# Altium schematic symbol library nova34.SCHLIB: 65 symbols
Pins are listed as number, name and electrical type; pins without a type are passive.

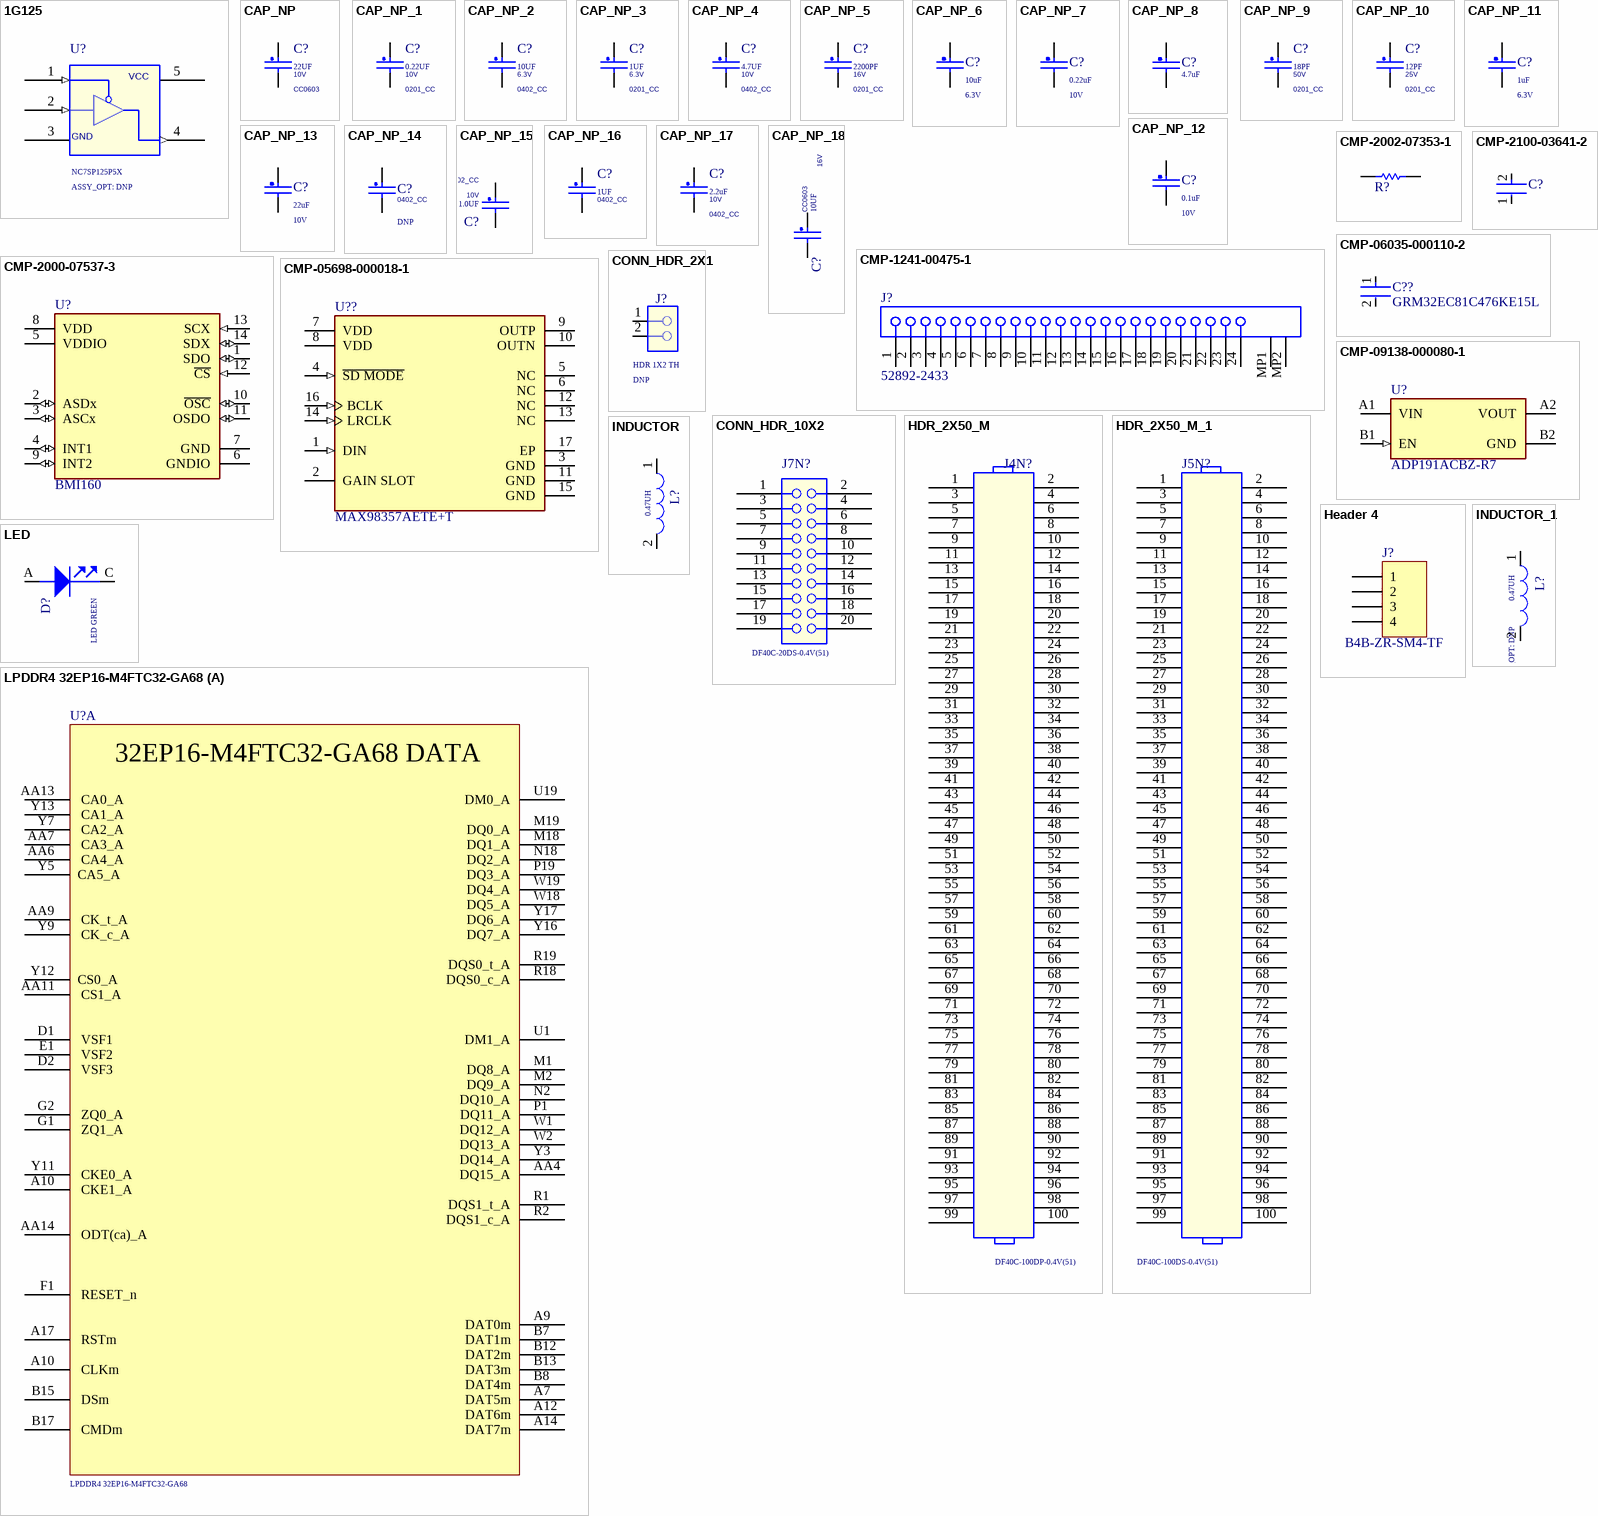
[diagram p0: symbols 1G125 to LPDDR4 32EP16-M4FTC32-GA68]

## 1G125
designator U?, comment NC7SP125P5X  ASSY_OPT: DNP
IC BUF TS 0.9-3.6V; PCB Footprint: SC70-5_A; MFG_NAME01: FAIRCHILD; CAD_APPROVED: Yes; AGILE_PN: 312-30153; CLASS: IC; MFG_PN01: NC7SP125P5X; ROHS: Yes; HEIGHT: 1.1MM
footprint SC70-5_A
footprint FP-MAA05A-IPC_B
pins: 1 ~{OE} (in), 2 A (in), 3 GND (power), 4 Y (out), 5 VCC (power)

## CAP_NP
designator C?, comment 22UF  VOLTAGE: 10V  PCB Footprint: CC0603
CAP CER 22uF 10V 20% X5R 0603; CLASS: DISCRETE; WVDC: 6.3V; AGILE_PN: 150-79530; MFG_NAME01: TDK; MFG_PN01: C1608X5R1A226M080AC; CAD_APPROVED: Yes; FPLIST: CC0603_OV,CC0603,0603_CC; SIGNAL_MODEL: DEFAULT_CAPACITOR_2.2e+07pF_2_1; Package Size: 0603; Tolerance: 20%; ROHS: Yes; HEIGHT: 1MM
footprint CC0603
footprint 0603_CC (CAP_NP_0603_CC_DISCRETE_1MM_150\By AAR)
pins: 1, 2

## CAP_NP_1
designator C?, comment 0.22UF  VOLTAGE: 10V  PCB Footprint: 0201_CC
CAP CER 0.22UF 10V 20% X5R 0201; CLASS: DISCRETE; AGILE_PN: 150-78815; MFG_NAME01: Taiyo Yuden; MFG_PN01: LMK063BJ224MP-F; CAD_APPROVED: Yes; FPLIST: CC0201,CC0201_HD,0201_CC; Tolerance: 20%; ROHS: Yes; HEIGHT: 0.33MM
footprint 0201_CC
footprint 0201_CC - C (0201_CC\By AAR)
pins: 1, 2

## CAP_NP_2
designator C?, comment 10UF  VOLTAGE: 6.3V  PCB Footprint: 0402_CC
CAP CER 10UF 6.3V 20% X5R 0402; CLASS: DISCRETE; AGILE_PN: 150-79163; MFG_NAME01: SAMSUNG ELECTRO MECHANICS; MFG_PN01: CL05A106MQ5NUNC; CAD_APPROVED: Yes; FPLIST: CC0402_25,CC0402_HD,0402_CC; Tolerance: 20%; ROHS: Yes; HEIGHT: 0.65 MM
footprint 0402_CC
footprint 0402_CC - C (0402_CC\By AAR)
pins: 1, 2

## CAP_NP_3
designator C?, comment 1UF  PCB Footprint: 0201_CC  VOLTAGE: 6.3V
CAP CER 1uF 6.3V 20% X5R 0201; CLASS: DISCRETE; AGILE_PN: 150-79407; MFG_NAME01: AVX; MFG_PN01: 02016D105MAT2A; CAD_APPROVED: Yes; FPLIST: CC0201,CC0201_HD,0201_CC,0201_CC_012SM_NSP; Package Type: 7¡± reel; Package Size: 0201; Tolerance: 20%; ROHS: Yes; HEIGHT: 0.35MM
footprint 0201_CC
footprint 0201_CC - C (0201_CC\By AAR)
pins: 1, 2

## CAP_NP_4
designator C?, comment 4.7UF  VOLTAGE: 10V  PCB Footprint: 0402_CC
CAP CER 4.7uF 10V 10% X5R 0402; CLASS: DISCRETE; AGILE_PN: 150-80044; MFG_NAME01: Samsung Electro Mechanics; MFG_PN01: CL05A475KP5NRNC; CAD_APPROVED: Yes; FPLIST: CC0402_25,CC0402_HD,0402_CC; Tolerance: 10%; ROHS: Yes; HEIGHT: 0.65MM
footprint 0402_CC - C (0402_CC\By AAR)
pins: 1, 2

## CAP_NP_5
designator C?, comment 2200PF  VOLTAGE: 16V  PCB Footprint: 0201_CC
CAP CER 2200PF 16V 10% X7R 0201; CLASS: DISCRETE; AGILE_PN: 150-78660; Tolerance: 20%; MFG_NAME01: MURATA; MFG_PN01: GRM033R71C222KA88D; CAD_APPROVED: Yes; FPLIST: CC0201,CC0201_HD,0201_CC; ROHS: Yes; HEIGHT: 0.33 MM
footprint 0201_CC
footprint 0201_CC - C (0201_CC\By AAR)
pins: 1, 2

## CAP_NP_6
designator C?, comment 10uF  Voltage: 6.3V
CLASS: DISCRETE
footprint 0402_CC - C (0402_CC\By AAR)
pins: 1, 2

## CAP_NP_7
designator C?, comment 0.22uF  Voltage: 10V
CLASS: DISCRETE
footprint 0201_CC - C (0201_CC\By AAR)
pins: 1, 2

## CAP_NP_8
designator C?, comment 4.7uF
CLASS: DISCRETE
footprint 0402_CC - C (0402_CC\By AAR)
pins: 1, 2

## CAP_NP_9
designator C?, comment 18PF  VOLTAGE: 50V  PCB Footprint: 0201_CC
CAP CER 18pF 50V 5% C0G 0201; CLASS: DISCRETE; FPLIST: CC0201,CC0201_HD,0201_CC; CAD_APPROVED: Yes; MFG_PN01: GRM0335C1H180JA01D; MFG_NAME01: MURATA; AGILE_PN: 150-79476; Package Type: &#966;180mm Paper taping; Package Size: 0201; HEIGHT: 0.33MM; ROHS: Yes; Tolerance: 5%
footprint 0201_CC
footprint 0201_CC - C (0201_CC\By AAR)
pins: 1, 2

## CAP_NP_10
designator C?, comment 12PF  VOLTAGE: 25V  PCB Footprint: 0201_CC
CAP CER 12PF 25V 5% C0G AEC-Q200 0201; CLASS: DISCRETE; FPLIST: CC0201,CC0201_HD,0201_CC; CAD_APPROVED: Yes; MFG_PN01: CGA1A2C0G1E120J030BA; MFG_NAME01: TDK; AGILE_PN: 150-79813; HEIGHT: 0.33MM; ROHS: Yes; Tolerance: 5%
footprint 0201_CC
footprint 0201_CC - C (0201_CC\By AAR)
pins: 1, 2

## CAP_NP_11
designator C?, comment 1uF  Voltage: 6.3V
CLASS: DISCRETE
footprint 0201_CC - C (0201_CC\By AAR)
pins: 1, 2

## CAP_NP_12
designator C?, comment 0.1uF  Voltage: 10V
CLASS: DISCRETE
footprint 0201_CC - C (0201_CC\By AAR)
pins: 1, 2

## CAP_NP_13
designator C?, comment 22uF  Voltage: 10V
CLASS: DISCRETE
footprint 0603_CC (CAP_NP_0603_CC_DISCRETE_1MM_150\By AAR)
pins: 1, 2

## CAP_NP_14
designator C?, comment ASSY_OPT: DNP  PCB Footprint: 0402_CC  (hidden comment: 10PF)
CAP CER 10PF 25V 5% C0G 0402; CLASS: DISCRETE; MFG_PN01: C0402C0G250-100JNP; MFG_NAME01: VENKEL COMPANY; CAD_APPROVED: Yes; FPLIST: CC0402_25,CC0402_HD,0402_CC; AGILE_PN: 150-30134; VOLTAGE: 25V; ROHS: Yes; Tolerance: 5%; Package Type: 0402; HEIGHT: 0.635 MM; Package Size: Paper Tape (7" Reel)
footprint 0402_CC
footprint 0402_CC - C (0402_CC\By AAR)
pins: 1, 2

## CAP_NP_15
designator C?, comment 1.0UF  PCB Footprint: 0402_CC  VOLTAGE: 10V
CAP CER 1.0UF 10V 10% X5R 0402; CLASS: DISCRETE; FPLIST: CC0402_25,CC0402_HD,0402_CC; CAD_APPROVED: Yes; MFG_PN01: CC0402KRX5R6BB105; MFG_NAME01: YAGEO AMERICA; AGILE_PN: 150-75772; HEIGHT: 0.6MM; ROHS: Yes; Package Size: 0402
footprint 0402_CC
footprint 0402_CC - C (0402_CC\By AAR)
pins: 1, 2

## CAP_NP_16
designator C?, comment 1UF  PCB Footprint: 0402_CC
CAP CER 1uF 10V 10% X7S 0402; CLASS: DISCRETE; Temp_Range: -55C - 125C; AGILE_PN: 150-80357; MFG_NAME01: MURATA; MFG_PN01: GRM155C71A105KE11D; CAD_APPROVED: Yes; FPLIST: CC0402_25,CC0402_HD,0402_CC; VOLTAGE: 10; Tolerance: 10%; ROHS: Yes; HEIGHT: 0.6MM; Package Size: 0402; Temp Range: -55C - 125C
footprint 0402_CC
footprint 0402_CC - C (0402_CC\By AAR)
pins: 1, 2

## CAP_NP_17
designator C?, comment 2.2uF  VOLTAGE: 10V  PCB Footprint: 0402_CC
CAP CER 2.2uF 10V 10% X5R 0402; CLASS: DISCRETE; AGILE_PN: 150-78974; MFG_NAME01: TDK; MFG_PN01: C1005X5R1A225K; CAD_APPROVED: Yes; FPLIST: CC0402_25,CC0402_HD,0402_CC; Tolerance: 10%; ROHS: Yes; HEIGHT: 0.55 MM; Package Size: 0402
footprint 0402_CC
footprint 0402_CC - C (0402_CC\By AAR)
pins: 1, 2

## CAP_NP_18
designator C?, comment 10UF  VOLTAGE: 16V  PCB Footprint: CC0603
CAP CER 10.0uF 16V 10% X5R 0603; CLASS: DISCRETE; FPLIST: CC0603_OV,CC0603,0603_CC,cc0603_0805_nsp; CAD_APPROVED: Yes; Temp_Range: -55¡ãC to +85¡ãC; MFG_PN01: GRM188R61C106KAALD; MFG_NAME01: MURATA; AGILE_PN: 150-80060; HEIGHT: 0.9MM; ROHS: Yes; Tolerance: 10%; Package Size: 0603; Package Type: SMT; Temp Range: -55¡ãC to +85¡ãC
footprint CC0603
footprint 0603_CC (CAP_NP_0603_CC_DISCRETE_1MM_150\By AAR)
pins: 1, 2

## CMP-1241-00475-1
designator J?, comment 52892-2433
0.5 mm Pitch Easy-On(TM) Type FPC Connector, 2.0 mm Mated Height, Right Angle, ZIF, SMT, Bottom Contact, 24 Circuits, -40 to 85 degC, ELV and RoHS Compliant, Tape and Reel; Manufacturer: Molex; Entry Angle: 90degrees Angle; Current (Max per Contact): 0.5A; Material - Plating Termination: Silver, Tin-Bismuth; Stackable: No; Durability (mating cycles max): 20; Pitch - Termination Interface: 0.50mm; Material - Metal: Phosphor Bronze; PCB Retention: Yes; Voltage (Max): 50V; Mated Height: 2.00mm; Circuits (Loaded): 24; Orientation: Right Angle; PackageVersion: Rev. A, 05/2013; Mounting Technology: Surface Mount; ComponentLink2URL: http://www.molex.com/webdocs/datasheets/pdf/en-us/0528922433_FFC_FPC_CONNECTORS.pdf; RoHS: TRUE; ComponentLink1Description: Manufacturer URL; ComponentLink2Description: Datasheet; Pitch - Mating Interface: 0.50mm; Polarized to PCB: No; Number of Rows: 1; PartNumber: 52892-2433; ComponentLink3Description: Package Specification; Material - Plating Mating: Silver, Tin-Bismuth; ComponentLink3URL: http://www.molex.com/pdm_docs/sd/528922433_sd.pdf; PackageReference: 52892-2433; PackageDescription: 24-Lead FPC Connector, Pitch 0.5 mm; Contact Position: Bottom; ComponentLink1URL: http://www.molex.com/molex/index.jsp; Packing: Tape and Reel; PCB Locator: No; Manufacturer Part Number: 52892-2433
footprint MOLX-52892-2433 (FPC Connector, 24-Leads, Right Angle, Pitch 0.5 mm, Mated Height 2.0 mm, SMT)
pins: 1, 2, 3, 4, 5, 6, 7, 8, 9, 10, 11, 12, 13, 14, 15, 16, 17, 18, 19, 20, 21, 22, 23, 24, MP1, MP2

## CMP-2000-07537-3
designator U?, comment BMI160
IMU ACCEL/GYRO I2C/SPI 14LGA; Manufacturer: Bosch; Sensor Type: Accelerometer; Output Type: SPI; Mount: Surface Mount; Max Operating Temperature: 85°C; Case/Package: LGA; Min Operating Temperature: -40°C; Packaging: Cut Tape; Lead Free: Lead Free; Manufacturer Part Number: BMI160
footprint FP-BMI160-MFG
pins: 1 SDO (io), 2 ASDx (io), 3 ASCx (io), 4 INT1 (io), 5 VDDIO (power), 6 GNDIO (power), 7 GND (power), 8 VDD (power), 9 INT2 (io), 10 ~{OSC} (io), 11 OSDO (io), 12 ~{CS} (in), 13 SCX (in), 14 SDX (io)

## CMP-2002-07353-1
designator R?, comment RC0402FR-0710KL  (value not drawn)
Manufacturer: Yageo / Phycomp; Manufacturer: Yageo; Part Number: RC0402FR-0710KL; Manufacturer Part Number: RC0402FR-0710KL
footprint RESC1005X40X25LL05T10 (Chip Resistor, 2-Leads, Body 1.00x0.50mm, IPC High Density)
footprint RESC1005X40X25ML05T10 (Chip Resistor, 2-Leads, Body 1.00x0.50mm, IPC Low Density)
footprint RESC1005X40X25NL05T10 (Chip Resistor, 2-Leads, Body 1.00x0.50mm, IPC Medium Density)
pins: 1, 2
1 alternate drawing of the same symbol

## CMP-2100-03641-2
designator C?, comment GRM155R71C104KA88D  (value not drawn)
CAP CER 0.1UF 16V X7R 0402; Manufacturer: Murata; Standoff Height: 0mm; Tolerance: 10%; Voltage Rating: 16Vdc; Material: Ceramic; Capacitance: 0.10μF; Value: 0.10μF; RoHS: TRUE; Manufacturer Part Number: GRM155R71C104KA88D; Temperature Characteristic: X7R; Octopart: https://octopart.com/grm155r71c104ka88d-murata-196880; Digikey Description: CAP CER 0.1UF 16V X7R 0402; Device Class L3: Ceramic Capacitors; Height: 0.55mm; ComponentLink2Description: Datasheet; Temperature Range Low: -55°C; Ipc Land Pattern Name: CAPC10050X219; ComponentLink2URL: https://search.murata.co.jp/Ceramy/image/img/A01X/G101/ENG/GRM155R71H471KA01-01A.pdf; Device Class L1: Passive Components; Lead Free: yes; Category: Cap; Package: GRM15; Temperature: -55°C to +125°C; Device Class L2: Capacitors; Temperature Range High: +125°C; Mouser Description: 0402 0.1 uF 16V ±10 % Tolerance X7R SMT Multilayer Ceramic Capacitor
footprint FP-GRM15-MFG
footprint FP-GRM15-IPC_C
footprint FP-GRM15-IPC_B
footprint FP-GRM15-IPC_A
pins: 1, 2

## CMP-05698-000018-1
designator U??, comment MAX98357AETE+T
IC AMP CLASS D MONO 3.2W 16TQFN; Manufacturer: Maxim; Max Supply Voltage: 5.5V; Max Output Current: 1.6A; Voltage Gain: 15dB; Max Power Dissipation: 1.666W; Min Supply Voltage: 2.5V; Power Supply Rejection Ratio (PSRR): 77dB; Series: -; Contact Plating: Tin; Min Operating Temperature: -40°C; Packaging: Tape and Reel; Max Output Power: 3.2W; Mount: Surface Mount; Number of Pins: 16; RoHS Compliant: Yes; Max Operating Temperature: 85°C; Radiation Hardening: No; Manufacturer Part Number: MAX98357AETE+T
footprint FP-T1633-4-MFG
footprint FP-T1633-4-IPC_B
footprint FP-T1633-4-IPC_C
footprint FP-T1633-4-IPC_A
pins: 1 DIN (in), 2 GAIN SLOT, 3 GND (power), 4 ~{SD MODE} (in), 5 NC, 6 NC, 7 VDD (power), 8 VDD (power), 9 OUTP, 10 OUTN, 11 GND (power), 12 NC, 13 NC, 14 LRCLK (in), 15 GND (power), 16 BCLK (in), 17 EP

## CMP-06035-000110-2
designator C??, comment GRM32EC81C476KE15L
Chip Multilayer Ceramic Capacitors for General Purpose, 1210, 47uF, X6S, 22%, 10%, 16V; Manufacturer: Murata; Case Code (Metric): 3225; Packaging: Tape and Reel; Mount: Surface Mount; Material: Ceramic; Voltage: 16V; Dielectric: X6S; Depth: 2.5mm; Min Operating Temperature: -55°C; Width: 2.5mm; Height: 2.5mm; Voltage Rating: 16V; Weight: 0.00388oz; Case Code (Imperial): 1210; Max Operating Temperature: 105°C; Capacitance: 47uF; Package Quantity: 1000; Case/Package: 1210; Voltage Rating (DC): 16V; Termination: SMD/SMT; Length: 3.2mm; Thickness: 0.106inch; Tolerance: 10%; Lead Free: Lead Free; REACH SVHC: No SVHC; Manufacturer Part Number: GRM32EC81C476KE15L
footprint FP-GRM32E-0_3-0_2-IPC_A
footprint FP-GRM32E-0_3-0_2-IPC_C
footprint FP-GRM32E-0_3-0_2-IPC_B
footprint FP-GRM32E-0_3-0_2-MFG
pins: 1, 2

## CMP-09138-000080-1
designator U?, comment ADP191ACBZ-R7
IC PWR SWITCH P-CHAN 1:1 4WLCSP; Manufacturer: Analog Devices; Nominal Supply Current: 500mA; Output Configuration: High Side; Max Power Dissipation: 7.2uW; Min Input Voltage: 1.1V; Operating Supply Current: 2uA; On-State Resistance: 105mR; Max Input Voltage: 3.6V; Number of Outputs: 1; Interface: On/Off; Lead Free: Contains Lead; RoHS Compliant: Yes; Number of Pins: 4; Output Current: 500mA; Min Operating Temperature: -40°C; Mount: Surface Mount; Supply Current: 500mA; Package Quantity: 1; Radiation Hardening: No; Max Output Current: 500mA; Max Supply Current: 500mA; REACH SVHC: No SVHC; Max Operating Temperature: 85°C; Packaging: Tape and Reel; Series: -; Operating Supply Voltage: 3.6V; Manufacturer Part Number: ADP191ACBZ-R7
footprint FP-CB-4-3-MFG
footprint FP-CB-4-3-IPC_C
footprint FP-CB-4-3-IPC_B
footprint FP-CB-4-3-IPC_A
pins: A1 VIN (power), A2 VOUT (power), B1 EN (in), B2 GND (power)

## CONN_HDR_2X1
designator J?, comment HDR 1X2 TH  ASSY_OPT: DNP
HDR 1X2 TH 100MIL SP 339H AU 98L; CLASS: IO; PCB Footprint: HDR_1X2; FPLIST: HDR102,SH_HDR102_BOTTOM; CAD_APPROVED: YES; Temp_Range: -55¡ãC to +125¡ãC; MFG_PN01: TSW-102-07-G-S; MFG_NAME01: SAMTEC; AGILE_PN: 210-75439; HEIGHT: 8.71 MM; ROHS: Yes; Temp Range: -55¡ãC to +125¡ãC
footprint HDR_1X2
pins: 1, 2

## CONN_HDR_10X2
designator J7N?, comment DF40C-20DS-0.4V(51)
CON 2X10 SKT SHRD SMT 0.4MM SP 63H AU; CLASS: IO; Temp Range: -35C to 85C; PCB Footprint: con20_0p4_6p8x3p1_sm; CAD_APPROVED: Yes; MFG_NAME01: HIROSE; AGILE_PN: 211-80328; HEIGHT: 1.6MM; Temp_Range: -35C to 85C; ROHS: Yes; MFG_PN01: DF40C-20DS-0.4V(51)
footprint con20_0p4_6p8x3p1_sm
pins: 1, 2, 3, 4, 5, 6, 7, 8, 9, 10, 11, 12, 13, 14, 15, 16, 17, 18, 19, 20

## HDR_2X50_M
designator J4N?, comment DF40C-100DP-0.4V(51)
CON 2X50 PLUG SHRD SMT 0.4MM SP 51H AU; CLASS: IO; Temp Range: -35 to 85 &#8451;; CAD_APPROVED: Yes; MFG_NAME01: HIROSE; AGILE_PN: 211-80305; PCB Footprint: con100_0p4_21p7x2p05_sm; HEIGHT: 1.29MM; Temp_Range: -35 to 85 &#8451;; ROHS: Yes; MFG_PN01: DF40C-100DP-0.4V(51)
footprint con100_0p4_21p7x2p05_sm
pins: 1, 2, 3, 4, 5, 6, 7, 8, 9, 10, 11, 12, 13, 14, 15, 16, 17, 18, 19, 20, 21, 22, 23, 24, 25, 26, 27, 28, 29, 30, 31, 32, 33, 34, 35, 36, 37, 38, 39, 40, 41, 42, 43, 44, 45, 46, 47, 48, 49, 50, 51, 52, 53, 54, 55, 56, 57, 58, 59, 60, 61, 62, 63, 64, 65, 66, 67, 68, 69, 70, 71, 72, 73, 74, 75, 76, 77, 78, 79, 80, 81, 82, 83, 84, 85, 86, 87, 88, 89, 90, 91, 92, 93, 94, 95, 96, 97, 98, 99, 100

## HDR_2X50_M_1
designator J5N?, comment DF40C-100DS-0.4V(51)
CON 2X50 SKT SHRD SMT 0.4MM SP 65H AU; CLASS: IO; Temp Range: -35C to +85C; AGILE_PN: 211-80183; MFG_NAME01: HIROSE; CAD_APPROVED: Yes; PCB Footprint: con100_0p4_22p8x3p1_sm; Package Type: SMT; MFG_PN01: DF40C-100DS-0.4V(51); ROHS: Yes; Temp_Range: -35C to +85C; HEIGHT: 1.65 MM
footprint con100_0p4_22p8x3p1_sm
pins: 1, 2, 3, 4, 5, 6, 7, 8, 9, 10, 11, 12, 13, 14, 15, 16, 17, 18, 19, 20, 21, 22, 23, 24, 25, 26, 27, 28, 29, 30, 31, 32, 33, 34, 35, 36, 37, 38, 39, 40, 41, 42, 43, 44, 45, 46, 47, 48, 49, 50, 51, 52, 53, 54, 55, 56, 57, 58, 59, 60, 61, 62, 63, 64, 65, 66, 67, 68, 69, 70, 71, 72, 73, 74, 75, 76, 77, 78, 79, 80, 81, 82, 83, 84, 85, 86, 87, 88, 89, 90, 91, 92, 93, 94, 95, 96, 97, 98, 99, 100

## Header 4
designator J?, comment B4B-ZR-SM4-TF
LatestRevisionDate: 17-Jul-2002; LatestRevisionNote: Re-released for DXP Platform.; Publisher: Altium Limited
signal-integrity model Connector
footprint JST_B4B-ZR-SM4-TFT(LF)(SN)
pins: 1, 2, 3, 4

## INDUCTOR
designator L?, comment 0.47UH
IND WW 0.47uH@1MHz 3.4A 20% 2016; PART_TYPE: INDUCTOR; CLASS: DISCRETE; AGILE_PN: 180-78630; MFG_NAME01: MURATA; MFG_PN01: 1286AS-H-R47M=P2; Temp_Range: -40C to +85C; CAD_APPROVED: Yes; PCB Footprint: IND_2016A; VOLTAGE: 20V DC; Tolerance: 20%; ROHS: Yes; HEIGHT: 1.2MM; Temp Range: -40C to +85C
footprint IND_SPH2520 (INDUCTOR_IND_SPH2520_DISCRETE_1\By AAR)
pins: 1, 2

## INDUCTOR_1
designator L?, comment 0.47UH  ASSY_OPT: DNP
IND PWR 0.47uH@1MHZ 4.7A 20% SMT; PART_TYPE: INDUCTOR\POWER; CLASS: DISCRETE; Temp Range: -40¡ãC to +125¡ãC; CAD_APPROVED: Yes; MFG_PN01: WPN252012ER47MT; MFG_NAME01: SHENZHEN SUNLORD ELECTRONICS CO., LTD; AGILE_PN: 180-78647; PCB Footprint: ind_sph2520; HEIGHT: 1.2MM; Temp_Range: -40¡ãC to +125¡ãC; ROHS: Yes; TOL: 20%; Tolerance: 20%
footprint ind_sph2520
pins: 1, 2

## LED
designator D?, comment LED GREEN
LED GRN SGL 25MA SMT 0603; CLASS: IC; VOLTAGE: 2V; AGILE_PN: 370-76672; MFG_NAME01: DIALIGHT; MFG_PN01: 598-8070-107F; CAD_APPROVED: Yes; PCB Footprint: LED_0603; ROHS: Yes; HEIGHT: 0.8 MM
footprint LED_0603
pins: A ANODE, C CATHODE

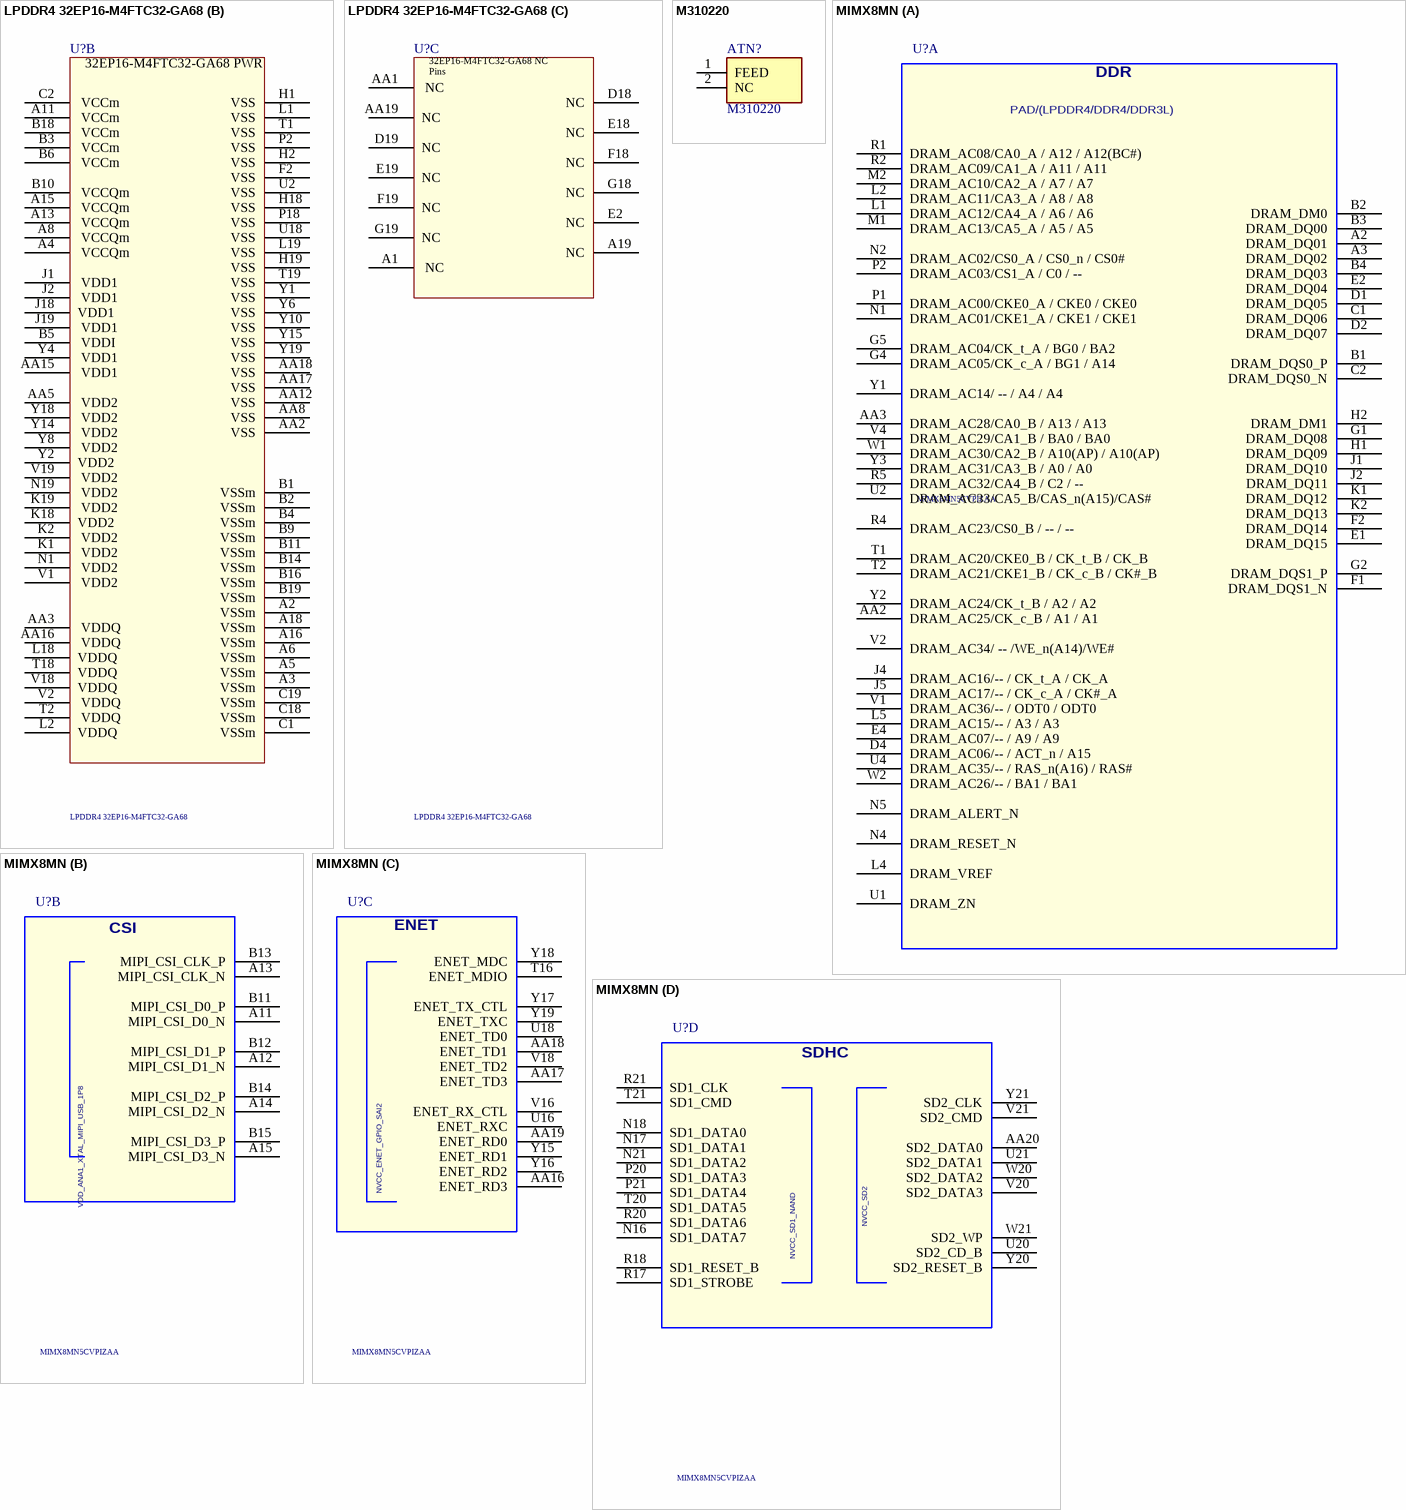
[diagram p1: symbols LPDDR4 32EP16-M4FTC32-GA68 to MIMX8MN]

## LPDDR4 32EP16-M4FTC32-GA68
designator U?
footprint FBGA144C40P19X21_800X950X80 (BGA, 144-Leads, Body 8.00x9.50mmx0.80mm, Pitch 0.40mm)
part A pins: A7  DAT5m, A9  DAT0m, A10  CKE1_A, A10  CLKm, A12  DAT6m, A14  DAT7m, A17  RSTm, AA4  DQ15_A, AA6  CA4_A, AA7  CA3_A, AA9  CK_t_A, AA11  CS1_A, AA13  CA0_A, AA14  ODT(ca)_A, B7 DAT1m, B8  DAT4m, B12  DAT2m, B13  DAT3m, B15  DSm, B17  CMDm, D1  VSF1, D2  VSF3, E1  VSF2, F1  RESET_n, G1  ZQ1_A, G2  ZQ0_A, M1  DQ8_A, M2  DQ9_A, M18 DQ1_A, M19  DQ0_A, N2  DQ10_A, N18 DQ2_A, P1  DQ11_A, P19 DQ3_A, R1  DQS1_t_A, R2  DQS1_c_A, R18 DQS0_c_A, R19  DQS0_t_A, U1  DM1_A, U19  DM0_A, W1  DQ12_A, W2  DQ13_A, W18 DQ5_A, W19  DQ4_A, Y3  DQ14_A, Y5 CA5_A, Y7  CA2_A, Y9  CK_c_A, Y11  CKE0_A, Y12 CS0_A, Y13  CA1_A, Y16  DQ7_A, Y17  DQ6_A
part B pins: A2  VSSm (power), A3 VSSm (power), A4  VCCQm (power), A5  VSSm (power), A6  VSSm (power), A8  VCCQm (power), A11  VCCm (power), A13  VCCQm (power), A15  VCCQm (power), A16  VSSm (power), A18  VSSm (power), AA2 VSS (power), AA3  VDDQ (power), AA5  VDD2 (power), AA8  VSS (power), AA12  VSS (power), AA15  VDD1 (power), AA16  VDDQ (power), AA17  VSS (power), AA18 VSS (power), B1  VSSm (power), B2  VSSm (power), B3  VCCm (power), B4  VSSm (power), B5  VDDI (power), B6  VCCm (power), B9  VSSm (power), B10  VCCQm (power), B11  VSSm (power), B14  VSSm (power), B16  VSSm (power), B18  VCCm (power), B19  VSSm (power), C1  VSSm (power), C2  VCCm (power), C18 VSSm (power), C19  VSSm (power), F2  VSS (power), H1  VSS (power), H2 VSS (power), H18 VSS (power), H19 VSS (power), J1  VDD1 (power), J2  VDD1 (power), J18 VDD1 (power), J19  VDD1 (power), K1  VDD2 (power), K2  VDD2 (power), K18 VDD2 (power), K19  VDD2 (power), L1  VSS (power), L2 VDDQ (power), L18 VDDQ (power), L19 VSS (power), N1  VDD2 (power), N19  VDD2 (power), P2  VSS (power), P18 VSS (power), T1  VSS (power), T2  VDDQ (power), T18 VDDQ (power), T19 VSS (power), U2  VSS (power), U18 VSS (power), V1  VDD2 (power), V2  VDDQ (power), V18 VDDQ (power), V19  VDD2 (power), Y1  VSS (power), Y2 VDD2 (power), Y4  VDD1 (power), Y6  VSS (power), Y8  VDD2 (power), Y10  VSS (power), Y14  VDD2 (power), Y15  VSS (power), Y18  VDD2 (power), Y19 VSS (power)
part C pins: A1  NC, A19 NC, AA1  NC, AA19 NC, D18 NC, D19 NC, E2 NC, E18 NC, E19 NC, F18 NC, F19 NC, G18 NC, G19 NC
part A text: 32EP16-M4FTC32-GA68 DATA
part B text: 32EP16-M4FTC32-GA68 PWR
part C text: 32EP16-M4FTC32-GA68 NC Pins

## M310220
designator ATN?
Antennas Ceramic Chip ANTENNA BT/WLAN 2.4-2.5GHz; Manufacturer_Name: Kyocera AVX; Geometry.Height: 1.18mm; Farnell Part Number: *; Farnell Price/Stock: *; Manufacturer_Part_Number: M310220; Datasheet Link: *
footprint M310220
pins: 1 FEED, 2 NC

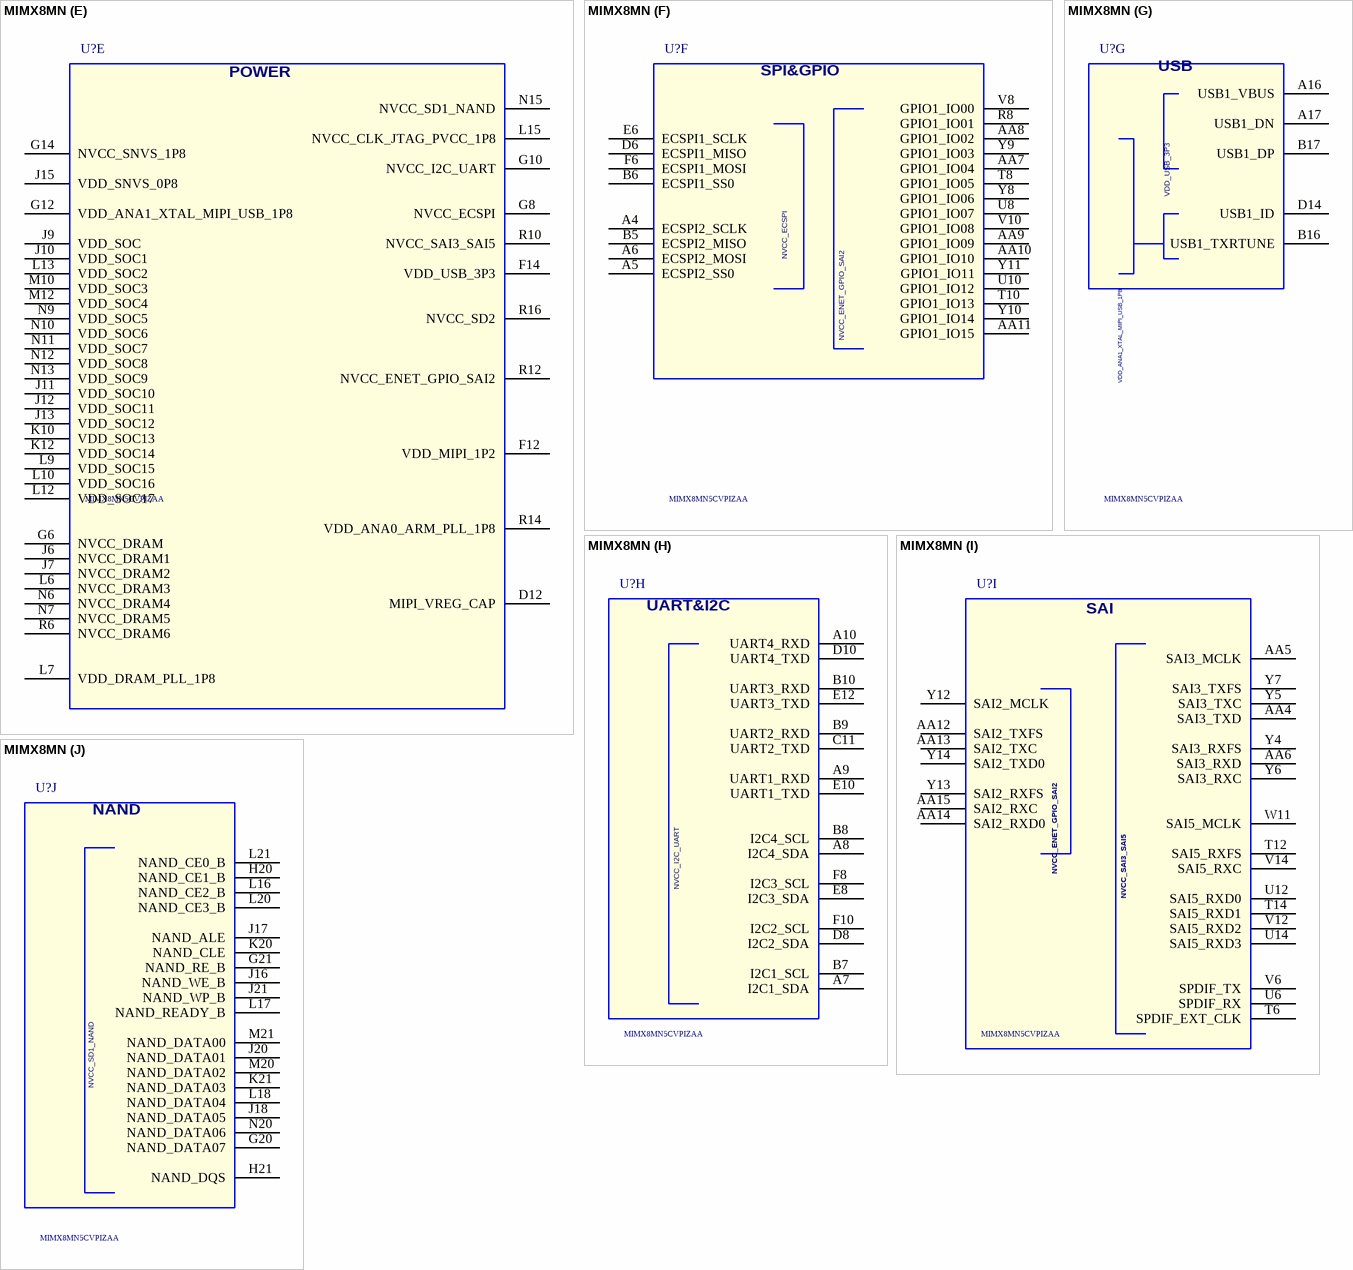
[diagram p2: symbol MIMX8MN]

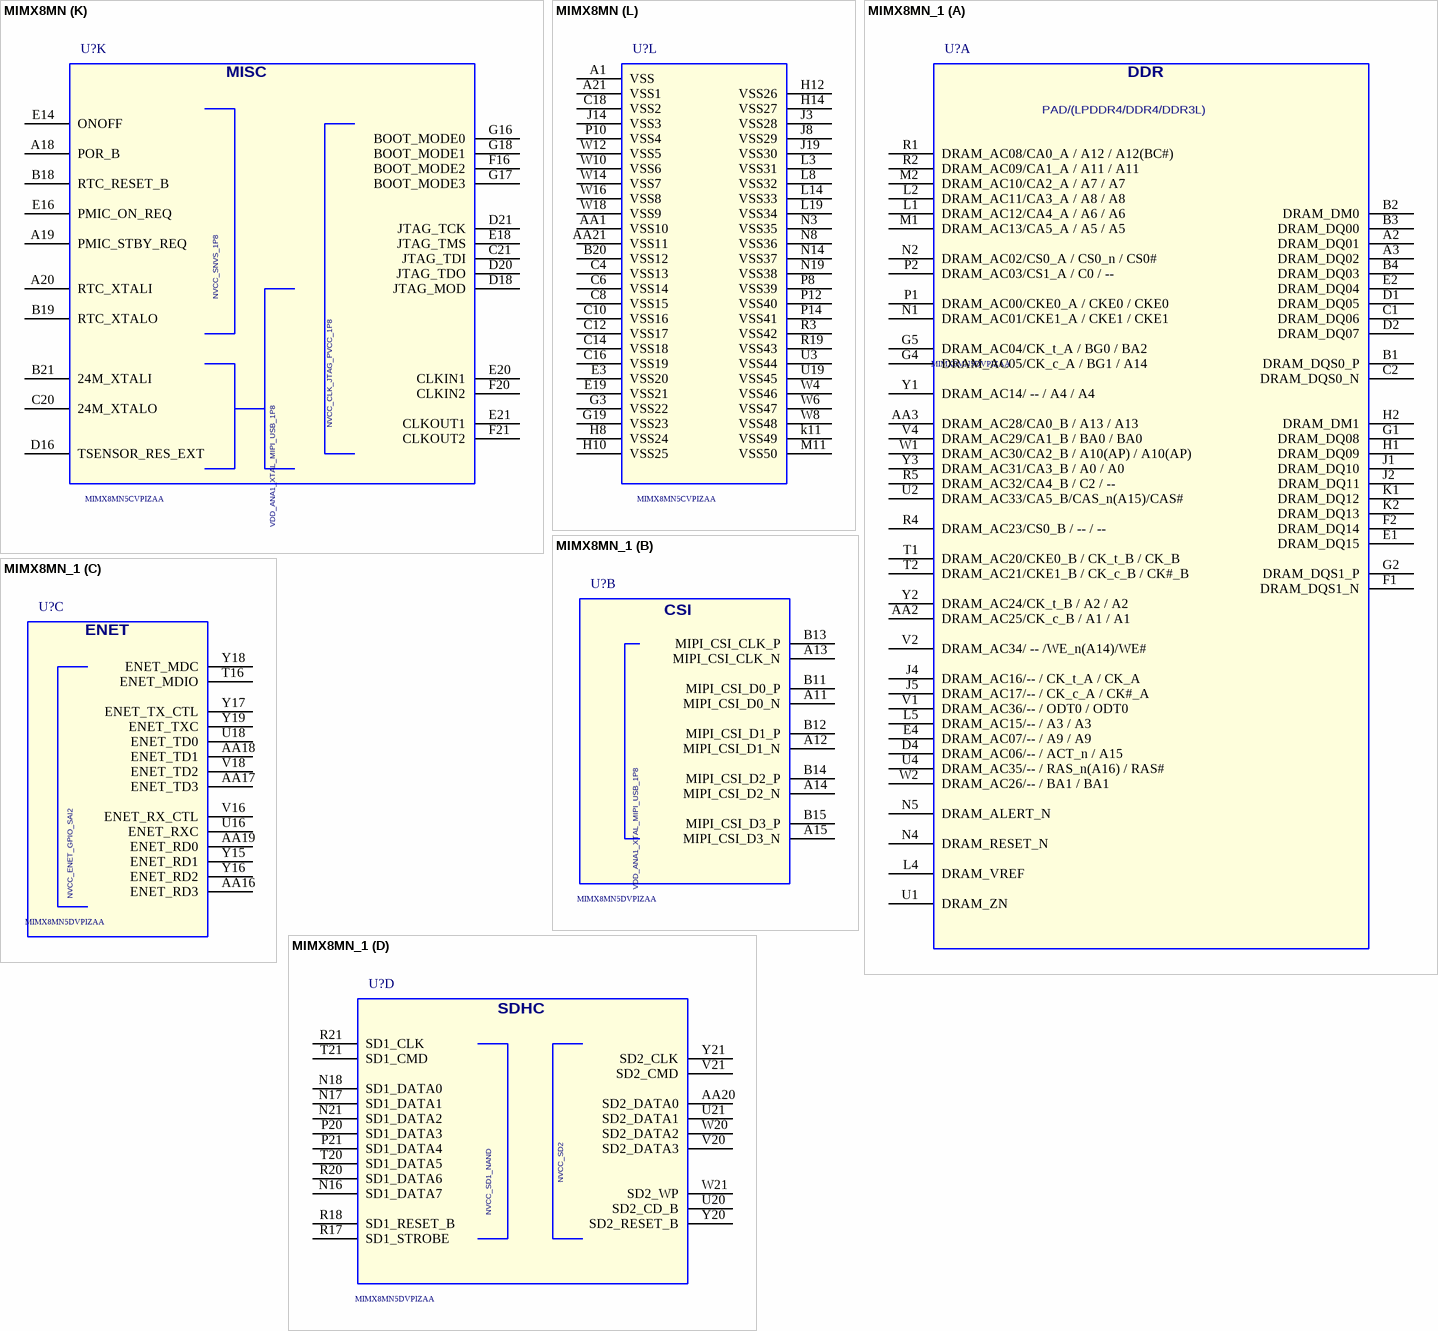
[diagram p3: symbols MIMX8MN to MIMX8MN_1]

## MIMX8MN
designator U?, comment MIMX8MN5CVPIZAA
IC CPU QUAD CORTEX A53+M7 1.4GHZ -- BGA306; PCB Footprint: pbga306_0p5_sq11mm; AGILE_PN: TMP-CIP-5098; CAD_APPROVED: Yes; PRE_APN: 330-77152; Temp Range: -40¡ãC to 105¡ãC; MFG_NAME01: NXP SEMICONDUCTORS; CLASS: IC; HEIGHT: 1.01MM; ROHS: Yes; MFG_PN01: MIMX8MN5CVPIZAA
footprint BGA306C50P21X21_1100X1100X101
part A pins: A2 DRAM_DQ01, A3 DRAM_DQ02, AA2 DRAM_AC25/CK_c_B / A1 / A1, AA3 DRAM_AC28/CA0_B / A13 / A13, B1 DRAM_DQS0_P, B2 DRAM_DM0, B3 DRAM_DQ00, B4 DRAM_DQ03, C1 DRAM_DQ06, C2 DRAM_DQS0_N, D1 DRAM_DQ05, D2 DRAM_DQ07, D4 DRAM_AC06/-- / ACT_n / A15, E1 DRAM_DQ15, E2 DRAM_DQ04, E4 DRAM_AC07/-- / A9 / A9, F1 DRAM_DQS1_N, F2 DRAM_DQ14, G1 DRAM_DQ08, G2 DRAM_DQS1_P, G4 DRAM_AC05/CK_c_A / BG1 / A14, G5 DRAM_AC04/CK_t_A / BG0 / BA2, H1 DRAM_DQ09, H2 DRAM_DM1, J1 DRAM_DQ10, J2 DRAM_DQ11, J4 DRAM_AC16/-- / CK_t_A / CK_A, J5 DRAM_AC17/-- / CK_c_A / CK#_A, K1 DRAM_DQ12, K2 DRAM_DQ13, L1 DRAM_AC12/CA4_A / A6 / A6, L2 DRAM_AC11/CA3_A / A8 / A8, L4 DRAM_VREF, L5 DRAM_AC15/-- / A3 / A3, M1 DRAM_AC13/CA5_A / A5 / A5, M2 DRAM_AC10/CA2_A / A7 / A7, N1 DRAM_AC01/CKE1_A / CKE1 / CKE1, N2 DRAM_AC02/CS0_A / CS0_n / CS0#, N4 DRAM_RESET_N, N5 DRAM_ALERT_N, P1 DRAM_AC00/CKE0_A / CKE0 / CKE0, P2 DRAM_AC03/CS1_A / C0 / --, R1 DRAM_AC08/CA0_A / A12 / A12(BC#), R2 DRAM_AC09/CA1_A / A11 / A11, R4 DRAM_AC23/CS0_B / -- / --, R5 DRAM_AC32/CA4_B / C2 / --, T1 DRAM_AC20/CKE0_B / CK_t_B / CK_B, T2 DRAM_AC21/CKE1_B / CK_c_B / CK#_B, U1 DRAM_ZN, U2 DRAM_AC33/CA5_B/CAS_n(A15)/CAS#, U4 DRAM_AC35/-- / RAS_n(A16) / RAS#, V1 DRAM_AC36/-- / ODT0 / ODT0, V2 DRAM_AC34/ -- /WE_n(A14)/WE#, V4 DRAM_AC29/CA1_B / BA0 / BA0, W1 DRAM_AC30/CA2_B / A10(AP) / A10(AP), W2 DRAM_AC26/-- / BA1 / BA1, Y1 DRAM_AC14/ -- / A4 / A4, Y2 DRAM_AC24/CK_t_B / A2 / A2, Y3 DRAM_AC31/CA3_B / A0 / A0
part B pins: A11 MIPI_CSI_D0_N, A12 MIPI_CSI_D1_N, A13 MIPI_CSI_CLK_N, A14 MIPI_CSI_D2_N, A15 MIPI_CSI_D3_N, B11 MIPI_CSI_D0_P, B12 MIPI_CSI_D1_P, B13 MIPI_CSI_CLK_P, B14 MIPI_CSI_D2_P, B15 MIPI_CSI_D3_P
part C pins: AA16 ENET_RD3, AA17 ENET_TD3, AA18 ENET_TD1, AA19 ENET_RD0, T16 ENET_MDIO, U16 ENET_RXC, U18 ENET_TD0, V16 ENET_RX_CTL, V18 ENET_TD2, Y15 ENET_RD1, Y16 ENET_RD2, Y17 ENET_TX_CTL, Y18 ENET_MDC, Y19 ENET_TXC
part D pins: AA20 SD2_DATA0, N16 SD1_DATA7, N17 SD1_DATA1, N18 SD1_DATA0, N21 SD1_DATA2, P20 SD1_DATA3, P21 SD1_DATA4, R17 SD1_STROBE, R18 SD1_RESET_B, R20 SD1_DATA6, R21 SD1_CLK, T20 SD1_DATA5, T21 SD1_CMD, U20 SD2_CD_B, U21 SD2_DATA1, V20 SD2_DATA3, V21 SD2_CMD, W20 SD2_DATA2, W21 SD2_WP, Y20 SD2_RESET_B, Y21 SD2_CLK
part E pins: D12 MIPI_VREG_CAP, F12 VDD_MIPI_1P2, F14 VDD_USB_3P3, G6 NVCC_DRAM, G8 NVCC_ECSPI, G10 NVCC_I2C_UART, G12 VDD_ANA1_XTAL_MIPI_USB_1P8, G14 NVCC_SNVS_1P8, J6 NVCC_DRAM1, J7 NVCC_DRAM2, J9 VDD_SOC, J10 VDD_SOC1, J11 VDD_SOC10, J12 VDD_SOC11, J13 VDD_SOC12, J15 VDD_SNVS_0P8, K10 VDD_SOC13, K12 VDD_SOC14, L6 NVCC_DRAM3, L7 VDD_DRAM_PLL_1P8, L9 VDD_SOC15, L10 VDD_SOC16, L12 VDD_SOC17, L13 VDD_SOC2, L15 NVCC_CLK_JTAG_PVCC_1P8, M10 VDD_SOC3, M12 VDD_SOC4, N6 NVCC_DRAM4, N7 NVCC_DRAM5, N9 VDD_SOC5, N10 VDD_SOC6, N11 VDD_SOC7, N12 VDD_SOC8, N13 VDD_SOC9, N15 NVCC_SD1_NAND, R6 NVCC_DRAM6, R10 NVCC_SAI3_SAI5, R12 NVCC_ENET_GPIO_SAI2, R14 VDD_ANA0_ARM_PLL_1P8, R16 NVCC_SD2
part F pins: A4 ECSPI2_SCLK, A5 ECSPI2_SS0, A6 ECSPI2_MOSI, AA7 GPIO1_IO04, AA8 GPIO1_IO02, AA9 GPIO1_IO09, AA10 GPIO1_IO10, AA11 GPIO1_IO15, B5 ECSPI2_MISO, B6 ECSPI1_SS0, D6 ECSPI1_MISO, E6 ECSPI1_SCLK, F6 ECSPI1_MOSI, R8 GPIO1_IO01, T8 GPIO1_IO05, T10 GPIO1_IO13, U8 GPIO1_IO07, U10 GPIO1_IO12, V8 GPIO1_IO00, V10 GPIO1_IO08, Y8 GPIO1_IO06, Y9 GPIO1_IO03, Y10 GPIO1_IO14, Y11 GPIO1_IO11
part G pins: A16 USB1_VBUS, A17 USB1_DN, B16 USB1_TXRTUNE, B17 USB1_DP, D14 USB1_ID
part H pins: A7 I2C1_SDA, A8 I2C4_SDA, A9 UART1_RXD, A10 UART4_RXD, B7 I2C1_SCL, B8 I2C4_SCL, B9 UART2_RXD, B10 UART3_RXD, C11 UART2_TXD, D8 I2C2_SDA, D10 UART4_TXD, E8 I2C3_SDA, E10 UART1_TXD, E12 UART3_TXD, F8 I2C3_SCL, F10 I2C2_SCL
part I pins: AA4 SAI3_TXD, AA5 SAI3_MCLK, AA6 SAI3_RXD, AA12 SAI2_TXFS, AA13 SAI2_TXC, AA14 SAI2_RXD0, AA15 SAI2_RXC, T6 SPDIF_EXT_CLK, T12 SAI5_RXFS, T14 SAI5_RXD1, U6 SPDIF_RX, U12 SAI5_RXD0, U14 SAI5_RXD3, V6 SPDIF_TX, V12 SAI5_RXD2, V14 SAI5_RXC, W11 SAI5_MCLK, Y4 SAI3_RXFS, Y5 SAI3_TXC, Y6 SAI3_RXC, Y7 SAI3_TXFS, Y12 SAI2_MCLK, Y13 SAI2_RXFS, Y14 SAI2_TXD0
part J pins: G20 NAND_DATA07, G21 NAND_RE_B, H20 NAND_CE1_B, H21 NAND_DQS, J16 NAND_WE_B, J17 NAND_ALE, J18 NAND_DATA05, J20 NAND_DATA01, J21 NAND_WP_B, K20 NAND_CLE, K21 NAND_DATA03, L16 NAND_CE2_B, L17 NAND_READY_B, L18 NAND_DATA04, L20 NAND_CE3_B, L21 NAND_CE0_B, M20 NAND_DATA02, M21 NAND_DATA00, N20 NAND_DATA06
part K pins: A18 POR_B, A19 PMIC_STBY_REQ, A20 RTC_XTALI, B18 RTC_RESET_B, B19 RTC_XTALO, B21 24M_XTALI, C20 24M_XTALO, C21 JTAG_TDI, D16 TSENSOR_RES_EXT, D18 JTAG_MOD, D20 JTAG_TDO, D21 JTAG_TCK, E14 ONOFF, E16 PMIC_ON_REQ, E18 JTAG_TMS, E20 CLKIN1, E21 CLKOUT1, F16 BOOT_MODE2, F20 CLKIN2, F21 CLKOUT2, G16 BOOT_MODE0, G17 BOOT_MODE3, G18 BOOT_MODE1
part L pins: A1 VSS, A21 VSS1, AA1 VSS10, AA21 VSS11, B20 VSS12, C4 VSS13, C6 VSS14, C8 VSS15, C10 VSS16, C12 VSS17, C14 VSS18, C16 VSS19, C18 VSS2, E3 VSS20, E19 VSS21, G3 VSS22, G19 VSS23, H8 VSS24, H10 VSS25, H12 VSS26, H14 VSS27, J3 VSS28, J8 VSS29, J14 VSS3, J19 VSS30, k11 VSS49, L3 VSS31, L8 VSS32, L14 VSS33, L19 VSS34, M11 VSS50, N3 VSS35, N8 VSS36, N14 VSS37, N19 VSS38, P8 VSS39, P10 VSS4, P12 VSS40, P14 VSS41, R3 VSS42, R19 VSS43, U3 VSS44, U19 VSS45, W4 VSS46, W6 VSS47, W8 VSS48, W10 VSS6, W12 VSS5, W14 VSS7, W16 VSS8, W18 VSS9
part A text: DDR; PAD/(LPDDR4/DDR4/DDR3L)
part B text: CSI
part C text: ENET
part D text: SDHC
part E text: POWER
part F text: SPI&GPIO
part G text: USB
part H text: UART&I2C
part I text: SAI
part J text: NAND
part K text: MISC

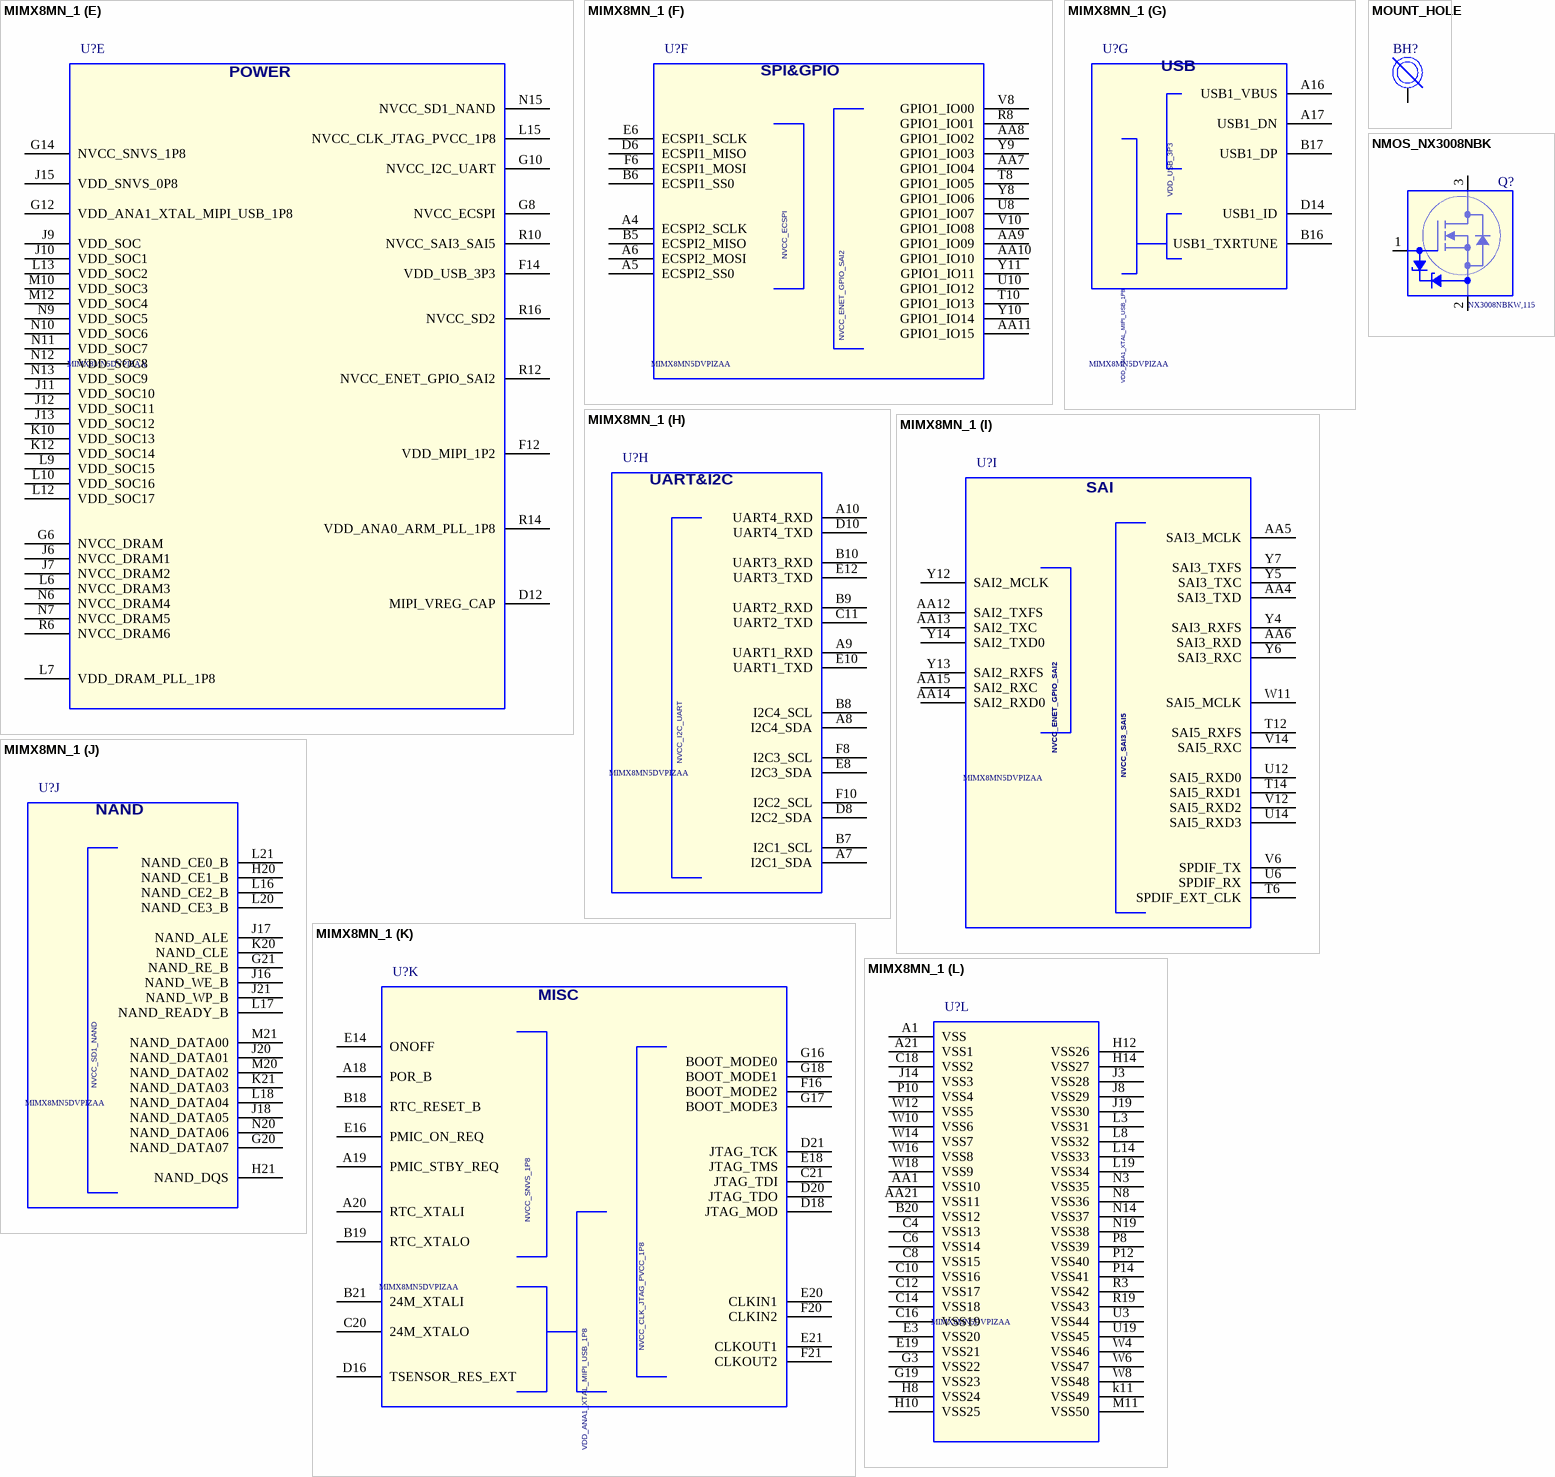
[diagram p4: symbols MIMX8MN_1 to NMOS_NX3008NBK]

## MIMX8MN_1
designator U?, comment MIMX8MN5DVPIZAA
IC CPU QUAD CORTEX A53+M7 1.4GHZ -- BGA306; PCB Footprint: pbga306_0p5_sq11mm; AGILE_PN: TMP-CIP-5098; CAD_APPROVED: Yes; PRE_APN: 330-77152; Temp Range: -40¡ãC to 105¡ãC; MFG_NAME01: NXP SEMICONDUCTORS; MFG_PN01: MIMX8MN5CVPIZAA; CLASS: IC; HEIGHT: 1.01MM; ROHS: Yes
footprint pbga306_0p5_sq11mm
footprint BGA306C50P21X21_1100X1100X101
part A pins: A2 DRAM_DQ01, A3 DRAM_DQ02, AA2 DRAM_AC25/CK_c_B / A1 / A1, AA3 DRAM_AC28/CA0_B / A13 / A13, B1 DRAM_DQS0_P, B2 DRAM_DM0, B3 DRAM_DQ00, B4 DRAM_DQ03, C1 DRAM_DQ06, C2 DRAM_DQS0_N, D1 DRAM_DQ05, D2 DRAM_DQ07, D4 DRAM_AC06/-- / ACT_n / A15, E1 DRAM_DQ15, E2 DRAM_DQ04, E4 DRAM_AC07/-- / A9 / A9, F1 DRAM_DQS1_N, F2 DRAM_DQ14, G1 DRAM_DQ08, G2 DRAM_DQS1_P, G4 DRAM_AC05/CK_c_A / BG1 / A14, G5 DRAM_AC04/CK_t_A / BG0 / BA2, H1 DRAM_DQ09, H2 DRAM_DM1, J1 DRAM_DQ10, J2 DRAM_DQ11, J4 DRAM_AC16/-- / CK_t_A / CK_A, J5 DRAM_AC17/-- / CK_c_A / CK#_A, K1 DRAM_DQ12, K2 DRAM_DQ13, L1 DRAM_AC12/CA4_A / A6 / A6, L2 DRAM_AC11/CA3_A / A8 / A8, L4 DRAM_VREF, L5 DRAM_AC15/-- / A3 / A3, M1 DRAM_AC13/CA5_A / A5 / A5, M2 DRAM_AC10/CA2_A / A7 / A7, N1 DRAM_AC01/CKE1_A / CKE1 / CKE1, N2 DRAM_AC02/CS0_A / CS0_n / CS0#, N4 DRAM_RESET_N, N5 DRAM_ALERT_N, P1 DRAM_AC00/CKE0_A / CKE0 / CKE0, P2 DRAM_AC03/CS1_A / C0 / --, R1 DRAM_AC08/CA0_A / A12 / A12(BC#), R2 DRAM_AC09/CA1_A / A11 / A11, R4 DRAM_AC23/CS0_B / -- / --, R5 DRAM_AC32/CA4_B / C2 / --, T1 DRAM_AC20/CKE0_B / CK_t_B / CK_B, T2 DRAM_AC21/CKE1_B / CK_c_B / CK#_B, U1 DRAM_ZN, U2 DRAM_AC33/CA5_B/CAS_n(A15)/CAS#, U4 DRAM_AC35/-- / RAS_n(A16) / RAS#, V1 DRAM_AC36/-- / ODT0 / ODT0, V2 DRAM_AC34/ -- /WE_n(A14)/WE#, V4 DRAM_AC29/CA1_B / BA0 / BA0, W1 DRAM_AC30/CA2_B / A10(AP) / A10(AP), W2 DRAM_AC26/-- / BA1 / BA1, Y1 DRAM_AC14/ -- / A4 / A4, Y2 DRAM_AC24/CK_t_B / A2 / A2, Y3 DRAM_AC31/CA3_B / A0 / A0
part B pins: A11 MIPI_CSI_D0_N, A12 MIPI_CSI_D1_N, A13 MIPI_CSI_CLK_N, A14 MIPI_CSI_D2_N, A15 MIPI_CSI_D3_N, B11 MIPI_CSI_D0_P, B12 MIPI_CSI_D1_P, B13 MIPI_CSI_CLK_P, B14 MIPI_CSI_D2_P, B15 MIPI_CSI_D3_P
part C pins: AA16 ENET_RD3, AA17 ENET_TD3, AA18 ENET_TD1, AA19 ENET_RD0, T16 ENET_MDIO, U16 ENET_RXC, U18 ENET_TD0, V16 ENET_RX_CTL, V18 ENET_TD2, Y15 ENET_RD1, Y16 ENET_RD2, Y17 ENET_TX_CTL, Y18 ENET_MDC, Y19 ENET_TXC
part D pins: AA20 SD2_DATA0, N16 SD1_DATA7, N17 SD1_DATA1, N18 SD1_DATA0, N21 SD1_DATA2, P20 SD1_DATA3, P21 SD1_DATA4, R17 SD1_STROBE, R18 SD1_RESET_B, R20 SD1_DATA6, R21 SD1_CLK, T20 SD1_DATA5, T21 SD1_CMD, U20 SD2_CD_B, U21 SD2_DATA1, V20 SD2_DATA3, V21 SD2_CMD, W20 SD2_DATA2, W21 SD2_WP, Y20 SD2_RESET_B, Y21 SD2_CLK
part E pins: D12 MIPI_VREG_CAP, F12 VDD_MIPI_1P2, F14 VDD_USB_3P3, G6 NVCC_DRAM, G8 NVCC_ECSPI, G10 NVCC_I2C_UART, G12 VDD_ANA1_XTAL_MIPI_USB_1P8, G14 NVCC_SNVS_1P8, J6 NVCC_DRAM1, J7 NVCC_DRAM2, J9 VDD_SOC, J10 VDD_SOC1, J11 VDD_SOC10, J12 VDD_SOC11, J13 VDD_SOC12, J15 VDD_SNVS_0P8, K10 VDD_SOC13, K12 VDD_SOC14, L6 NVCC_DRAM3, L7 VDD_DRAM_PLL_1P8, L9 VDD_SOC15, L10 VDD_SOC16, L12 VDD_SOC17, L13 VDD_SOC2, L15 NVCC_CLK_JTAG_PVCC_1P8, M10 VDD_SOC3, M12 VDD_SOC4, N6 NVCC_DRAM4, N7 NVCC_DRAM5, N9 VDD_SOC5, N10 VDD_SOC6, N11 VDD_SOC7, N12 VDD_SOC8, N13 VDD_SOC9, N15 NVCC_SD1_NAND, R6 NVCC_DRAM6, R10 NVCC_SAI3_SAI5, R12 NVCC_ENET_GPIO_SAI2, R14 VDD_ANA0_ARM_PLL_1P8, R16 NVCC_SD2
part F pins: A4 ECSPI2_SCLK, A5 ECSPI2_SS0, A6 ECSPI2_MOSI, AA7 GPIO1_IO04, AA8 GPIO1_IO02, AA9 GPIO1_IO09, AA10 GPIO1_IO10, AA11 GPIO1_IO15, B5 ECSPI2_MISO, B6 ECSPI1_SS0, D6 ECSPI1_MISO, E6 ECSPI1_SCLK, F6 ECSPI1_MOSI, R8 GPIO1_IO01, T8 GPIO1_IO05, T10 GPIO1_IO13, U8 GPIO1_IO07, U10 GPIO1_IO12, V8 GPIO1_IO00, V10 GPIO1_IO08, Y8 GPIO1_IO06, Y9 GPIO1_IO03, Y10 GPIO1_IO14, Y11 GPIO1_IO11
part G pins: A16 USB1_VBUS, A17 USB1_DN, B16 USB1_TXRTUNE, B17 USB1_DP, D14 USB1_ID
part H pins: A7 I2C1_SDA, A8 I2C4_SDA, A9 UART1_RXD, A10 UART4_RXD, B7 I2C1_SCL, B8 I2C4_SCL, B9 UART2_RXD, B10 UART3_RXD, C11 UART2_TXD, D8 I2C2_SDA, D10 UART4_TXD, E8 I2C3_SDA, E10 UART1_TXD, E12 UART3_TXD, F8 I2C3_SCL, F10 I2C2_SCL
part I pins: AA4 SAI3_TXD, AA5 SAI3_MCLK, AA6 SAI3_RXD, AA12 SAI2_TXFS, AA13 SAI2_TXC, AA14 SAI2_RXD0, AA15 SAI2_RXC, T6 SPDIF_EXT_CLK, T12 SAI5_RXFS, T14 SAI5_RXD1, U6 SPDIF_RX, U12 SAI5_RXD0, U14 SAI5_RXD3, V6 SPDIF_TX, V12 SAI5_RXD2, V14 SAI5_RXC, W11 SAI5_MCLK, Y4 SAI3_RXFS, Y5 SAI3_TXC, Y6 SAI3_RXC, Y7 SAI3_TXFS, Y12 SAI2_MCLK, Y13 SAI2_RXFS, Y14 SAI2_TXD0
part J pins: G20 NAND_DATA07, G21 NAND_RE_B, H20 NAND_CE1_B, H21 NAND_DQS, J16 NAND_WE_B, J17 NAND_ALE, J18 NAND_DATA05, J20 NAND_DATA01, J21 NAND_WP_B, K20 NAND_CLE, K21 NAND_DATA03, L16 NAND_CE2_B, L17 NAND_READY_B, L18 NAND_DATA04, L20 NAND_CE3_B, L21 NAND_CE0_B, M20 NAND_DATA02, M21 NAND_DATA00, N20 NAND_DATA06
part K pins: A18 POR_B, A19 PMIC_STBY_REQ, A20 RTC_XTALI, B18 RTC_RESET_B, B19 RTC_XTALO, B21 24M_XTALI, C20 24M_XTALO, C21 JTAG_TDI, D16 TSENSOR_RES_EXT, D18 JTAG_MOD, D20 JTAG_TDO, D21 JTAG_TCK, E14 ONOFF, E16 PMIC_ON_REQ, E18 JTAG_TMS, E20 CLKIN1, E21 CLKOUT1, F16 BOOT_MODE2, F20 CLKIN2, F21 CLKOUT2, G16 BOOT_MODE0, G17 BOOT_MODE3, G18 BOOT_MODE1
part L pins: A1 VSS, A21 VSS1, AA1 VSS10, AA21 VSS11, B20 VSS12, C4 VSS13, C6 VSS14, C8 VSS15, C10 VSS16, C12 VSS17, C14 VSS18, C16 VSS19, C18 VSS2, E3 VSS20, E19 VSS21, G3 VSS22, G19 VSS23, H8 VSS24, H10 VSS25, H12 VSS26, H14 VSS27, J3 VSS28, J8 VSS29, J14 VSS3, J19 VSS30, k11 VSS49, L3 VSS31, L8 VSS32, L14 VSS33, L19 VSS34, M11 VSS50, N3 VSS35, N8 VSS36, N14 VSS37, N19 VSS38, P8 VSS39, P10 VSS4, P12 VSS40, P14 VSS41, R3 VSS42, R19 VSS43, U3 VSS44, U19 VSS45, W4 VSS46, W6 VSS47, W8 VSS48, W10 VSS6, W12 VSS5, W14 VSS7, W16 VSS8, W18 VSS9
part A text: DDR; PAD/(LPDDR4/DDR4/DDR3L)
part B text: CSI
part C text: ENET
part D text: SDHC
part E text: POWER
part F text: SPI&GPIO
part G text: USB
part H text: UART&I2C
part I text: SAI
part J text: NAND
part K text: MISC

## MOUNT_HOLE
designator BH?, comment MOUNTING HOLE  (value not drawn)
MOUNTING HOLE DRILL 109 PAD 200 PLATED TH NO PART TO ORDER; CLASS: IC; CAD_APPROVED: Yes; ASSY_OPT: DNP; AGILE_PN: 280-75147; PCB Footprint: GNDPOINT256; HEIGHT: 0.005 MILS; ROHS: Yes
footprint GNDPOINT256
pins: 1

## NMOS_NX3008NBK
designator Q?, comment NX3008NBKW,115
TRAN NMOS SW 30V 350mA AEC-Q101 SC-70; CLASS: IC; CAD_APPROVED: Yes; MFG_NAME01: NEXPERIA; AGILE_PN: 480-79736; PCB Footprint: sc70_3; HEIGHT: 1.1MM; ROHS: Yes; MFG_PN01: NX3008NBKW,115
footprint sc70_3
footprint SOT65P210X110-3N
pins: 1 GATE, 2 SOURCE, 3 DRAIN

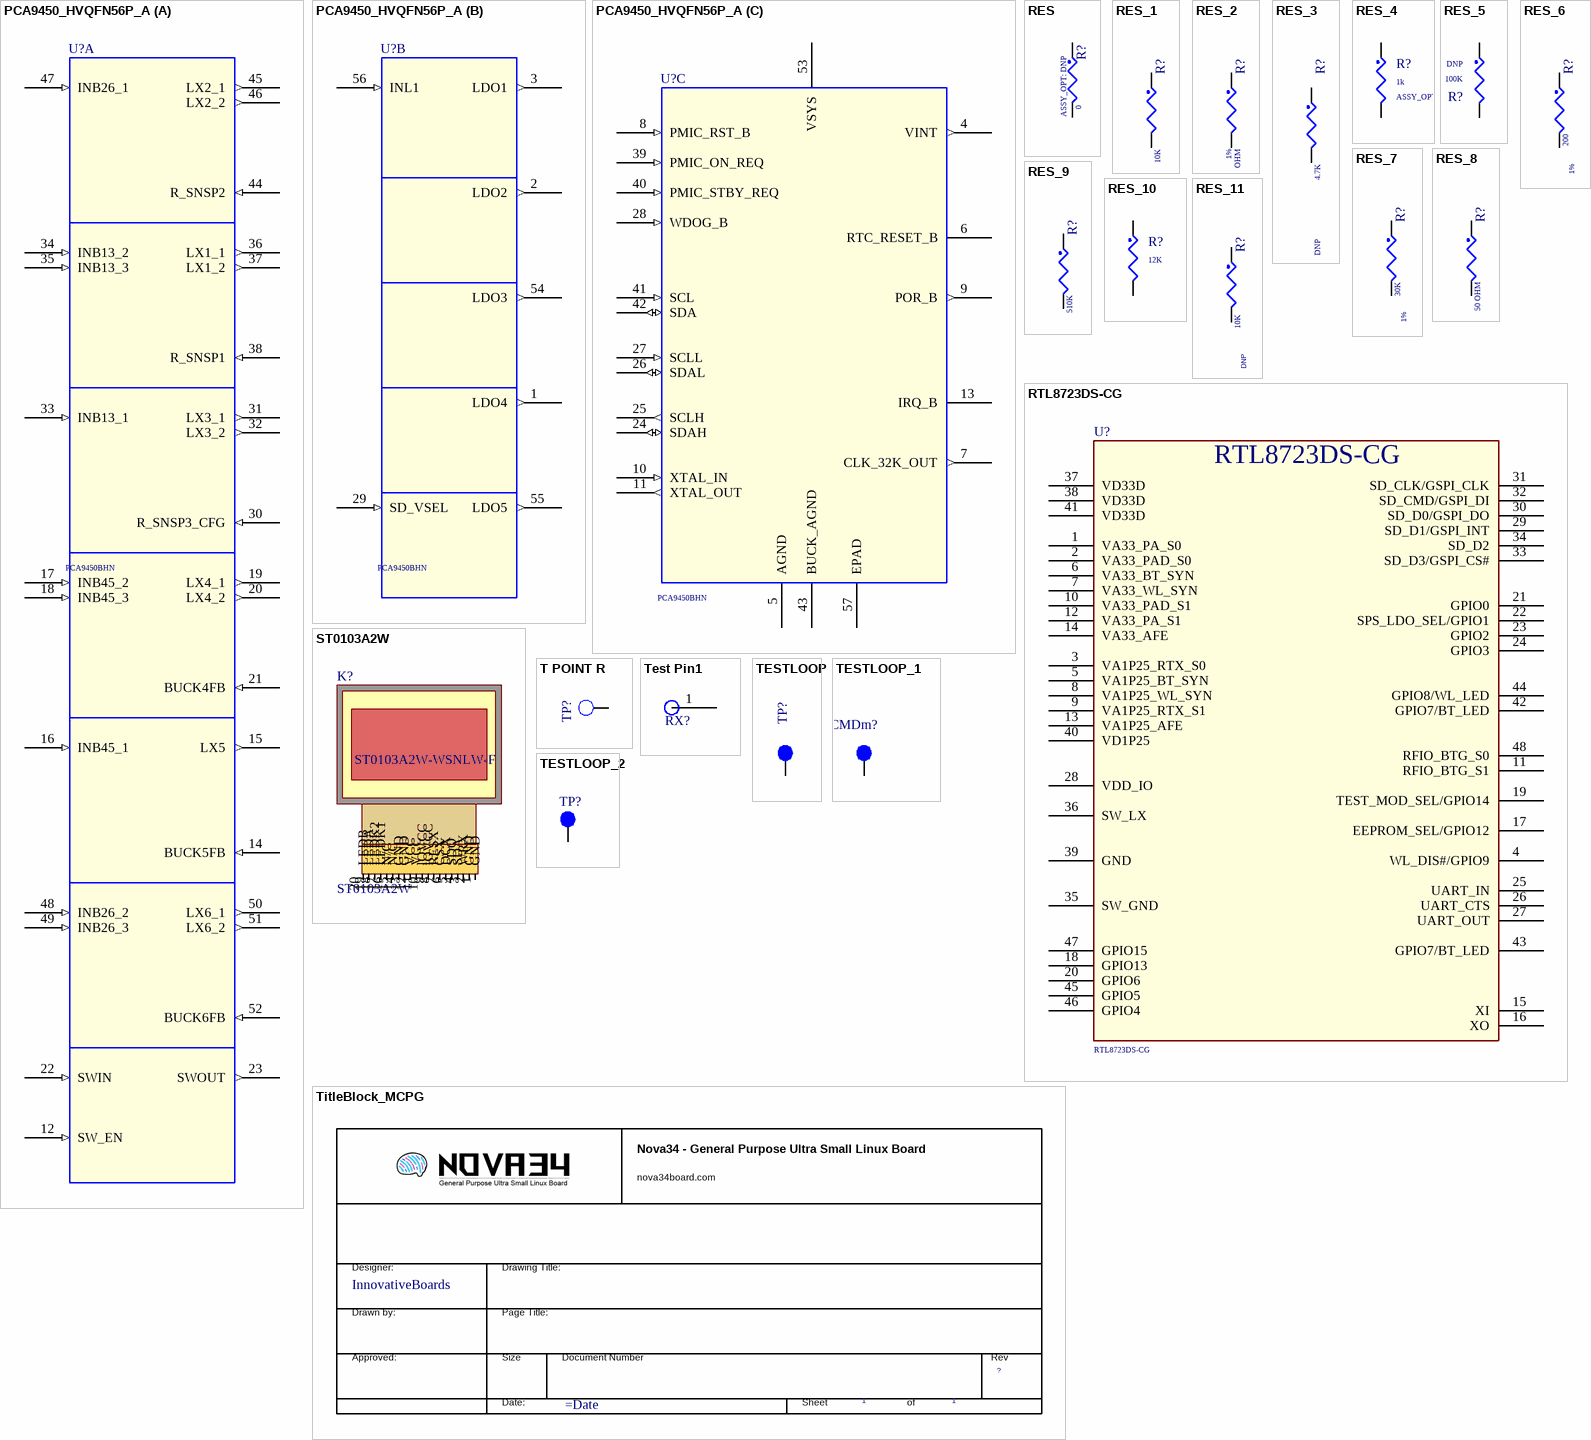
[diagram p5: symbols PCA9450_HVQFN56P_A to TitleBlock_MCPG]

## PCA9450_HVQFN56P_A
designator U?, comment PCA9450BHN
IC POWER MANAGEMENT 2.7-5.5V HVQFN56; SPLIT_INST: TRUE; SWAP_INFO: (S1+S2+S3); CAD_APPROVED: Yes; PRE_APN: 315-82314; Temp_Range: -40C to +105C; MFG_NAME01: NXP SEMICONDUCTORS; AGILE_PN: TMP-WF-36197; PCB Footprint: hvqfn56_0p4_7x7_ep4p7mm; CLASS: IC; HEIGHT: 1MM; ROHS: Yes; MFG_PN01: PCA9450BHN; VOLTAGE: 2.7-5.5V; Temp Range: -40C to +105C
footprint hvqfn56_0p4_7x7_ep4p7mm
footprint QFN40P700X700X100-57N-D
part A pins: 12 SW_EN (in), 14 BUCK5FB (in), 15 LX5 (out), 16 INB45_1 (in), 17 INB45_2 (in), 18 INB45_3 (in), 19 LX4_1 (out), 20 LX4_2 (out), 21 BUCK4FB (in), 22 SWIN (in), 23 SWOUT (out), 30 R_SNSP3_CFG (in), 31 LX3_1 (out), 32 LX3_2 (out), 33 INB13_1 (in), 34 INB13_2 (in), 35 INB13_3 (in), 36 LX1_1 (out), 37 LX1_2 (out), 38 R_SNSP1 (in), 44 R_SNSP2 (in), 45 LX2_1 (out), 46 LX2_2 (out), 47 INB26_1 (in), 48 INB26_2 (in), 49 INB26_3 (in), 50 LX6_1 (out), 51 LX6_2 (out), 52 BUCK6FB (in)
part B pins: 1 LDO4 (out), 2 LDO2 (out), 3 LDO1 (out), 29 SD_VSEL (in), 54 LDO3 (out), 55 LDO5 (out), 56 INL1 (in)
part C pins: 4 VINT (out), 5 AGND (power), 6 RTC_RESET_B (oc), 7 CLK_32K_OUT (out), 8 PMIC_RST_B (in), 9 POR_B (out), 10 XTAL_IN (in), 11 XTAL_OUT (out), 13 IRQ_B (oc), 24 SDAH (io), 25 SCLH (out), 26 SDAL (io), 27 SCLL (in), 28 WDOG_B (in), 39 PMIC_ON_REQ (in), 40 PMIC_STBY_REQ (in), 41 SCL (in), 42 SDA (io), 43 BUCK_AGND (power), 53 VSYS (power), 57 EPAD (power)

## RES
designator R?, comment 0  ASSY_OPT: DNP
RES MF ZERO OHM 1/16W 5% 0402; CLASS: DISCRETE; AGILE_PN: 470-75394; MFG_NAME01: YAGEO AMERICA; MFG_PN01: RC0402JR-070RL; CAD_APPROVED: Yes; FPLIST: RC0402_25,RC0402_HD,RC0402_X2,0402_CC; PCB Footprint: 0402_CC; Tolerance: 5%; ROHS: Yes; HEIGHT: 0.45 MM; VOLTAGE: 1/16W
footprint 0402_CC_RES (0402_CC_INDUCTOR\By AAR)
pins: 1, 2

## RES_1
designator R?, comment 10K
RES MF 10K 1/20W 5% 0201; CLASS: DISCRETE; PCB Footprint: 0201_CC; FPLIST: RC0201,0201_CC; CAD_APPROVED: Yes; MFG_PN01: RTT01103JTH; MFG_NAME01: RALEC ELECTRONIC CORP; AGILE_PN: 470-79719; HEIGHT: 0.26 MM; ROHS: Yes; Tolerance: 5%
footprint 0201_RES (0201_CC\By AAR)
pins: 1, 2

## RES_2
designator R?, comment 240 OHM  Tolerance: 1%
RES MF 240 OHM 1/20W 1% 0201; CLASS: DISCRETE; Temp Range: -55¡ãC ~ 125¡ãC; VOLTAGE: 25V; PCB Footprint: 0201_CC; FPLIST: CC0201,CC0201_HD,0201_CC; CAD_APPROVED: Yes; MFG_PN01: RC0201FR-07240RL; MFG_NAME01: YAGEO AMERICA; AGILE_PN: 470-81317; HEIGHT: 0.26MM; Temp_Range: -55¡ãC ~ 125¡ãC; ROHS: Yes
footprint 0201_RES (0201_CC\By AAR)
pins: 1, 2

## RES_3
designator R?, comment 4.7K  ASSY_OPT: DNP
RES MF 4.7K 1/20W 5% AEC-Q200 0201; CLASS: DISCRETE; Temp Range: -55C to +155C; AGILE_PN: 470-79700; MFG_NAME01: KOA SPEER; MFG_PN01: RK73B1HTTC472J; CAD_APPROVED: Yes; FPLIST: RC0201,0201_CC; PCB Footprint: 0201_CC; Tolerance: 5%; ROHS: Yes; Temp_Range: -55C to +155C; HEIGHT: 0.25MM
footprint 0201_RES (0201_CC\By AAR)
pins: 1, 2

## RES_4
designator R?, comment 1k  ASSY_OPT: DNP
RES MF 1.0K OHM 1/20W 1% 30V -55+155C 0201; CLASS: DISCRETE; PCB Footprint: 0201_CC; AGILE_PN: 470-82221; MFG_NAME01: VISHAY INTERTECHNOLOGY; MFG_PN01: CRCW02011K00FNED; Temp_Range: -55¡ãC ~ 155¡ãC; CAD_APPROVED: Yes; FPLIST: RC0201,0201_CC; VOLTAGE: 30; Tolerance: 1%; ROHS: Yes; HEIGHT: 0.28MM; Temp Range: -55¡ãC ~ 155¡ãC
footprint 0201_RES (0201_CC\By AAR)
pins: 1, 2

## RES_5
designator R?, comment 100K  ASSY_OPT: DNP
RES MF 100K 1/20W 1% 0201; CLASS: DISCRETE; PCB Footprint: 0201_CC; AGILE_PN: 470-77704; MFG_NAME01: SKYMOS; MFG_PN01: RC-0201-104FT; CAD_APPROVED: Yes; FPLIST: RC0201,0201_CC; Tolerance: 1%; ROHS: Yes; HEIGHT: 0.26MM
footprint 0201_RES (0201_CC\By AAR)
pins: 1, 2

## RES_6
designator R?, comment 200  Tolerance: 1%
RES MF 200 OHM 1/20W 1% 0201; CLASS: DISCRETE; PCB Footprint: 0201_CC; FPLIST: RC0201,0201_CC; CAD_APPROVED: Yes; Temp_Range: -55¡ãC ~ 125¡ãC; MFG_PN01: RC0201FR-07200RL; MFG_NAME01: YAGEO AMERICA; AGILE_PN: 470-82323; VOLTAGE: 25V; HEIGHT: 0.26MM; ROHS: Yes; Temp Range: -55¡ãC ~ 125¡ãC
footprint 0201_RES (0201_CC\By AAR)
pins: 1, 2

## RES_7
designator R?, comment 30K  Tolerance: 1%
RES MF 30K 1/20W 1% 0201; CLASS: DISCRETE; Temp Range: -55¡ãC ~ 155¡ãC; VOLTAGE: 25V; PCB Footprint: 0201_CC; AGILE_PN: 470-81353; MFG_NAME01: YAGEO AMERICA; MFG_PN01: RC0201FR-0730KL; CAD_APPROVED: Yes; FPLIST: RC0201,0201_CC; ROHS: Yes; Temp_Range: -55¡ãC ~ 155¡ãC; HEIGHT: 0.26MM
footprint 0201_RES (0201_CC\By AAR)
pins: 1, 2

## RES_8
designator R?, comment 50 OHM
RES MF 50 OHM 1/20W 5% 0402; CLASS: DISCRETE; AGILE_PN: 470-82494; FPLIST: RC0402_25,RC0402_HD,0402_CC; CAD_APPROVED: YES; MFG_NAME01: VISHAY; MFG_PN01: CH0402-50RJNPA; PCB Footprint: 0402_CC; Package Size: 0402 (1005 Metric); HEIGHT: 0.627MM; Tolerance: 5%; ROHS: Yes
footprint 0402_CC_RES (0402_CC_INDUCTOR\By AAR)
pins: 1, 2

## RES_9
designator R?, comment 510K
RES MF 510K 1/16W 5% 0402; CLASS: DISCRETE; FPLIST: RC0402_25,RC0402_HD,0402_CC; CAD_APPROVED: Yes; MFG_PN01: ERJ-2GEJ514X; MFG_NAME01: PANASONIC; AGILE_PN: 470-76166; PCB Footprint: 0402_CC; HEIGHT: 0.4 MM; ROHS: Yes; Tolerance: 5%
footprint 0402_CC_RES (0402_CC_INDUCTOR\By AAR)
pins: 1, 2

## RES_10
designator R?, comment 12K
RES MF 12K 1/20W 1% 0201; CLASS: DISCRETE; PCB Footprint: 0201_CC; MFG_PN01: RC-0201-123FT; MFG_NAME01: SKYMOS; CAD_APPROVED: Yes; FPLIST: RC0201,0201_CC; AGILE_PN: 470-77701; VOLTAGE: 1/20W; ROHS: Yes; Tolerance: 1%; HEIGHT: 0.26MM
footprint 0201_RES (0201_CC\By AAR)
pins: 1, 2

## RES_11
designator R?, comment 10K  ASSY_OPT: DNP
RES MF 10K 1/16W 5% 0402; CLASS: DISCRETE; PCB Footprint: 0402_CC; FPLIST: RC0402_25,RC0402_HD,0402_CC; CAD_APPROVED: Yes; MFG_PN01: CRCW040210K0JNED; MFG_NAME01: VISHAY INTERTECHNOLOGY; AGILE_PN: 470-75557; ROHS: Yes; Tolerance: 5%; TOL: 5%; HEIGHT: 0.4 MM
footprint 0402_CC
footprint 0402_CC_RES (0402_CC_INDUCTOR\By AAR)
pins: 1, 2

## RTL8723DS-CG
designator U?
footprint RTL8723DS-CG
pins: 1 VA33_PA_S0, 2 VA33_PAD_S0, 3 VA1P25_RTX_S0, 4 WL_DIS#/GPIO9, 5 VA1P25_BT_SYN, 6 VA33_BT_SYN, 7 VA33_WL_SYN, 8 VA1P25_WL_SYN, 9 VA1P25_RTX_S1, 10 VA33_PAD_S1, 11 RFIO_BTG_S1, 12 VA33_PA_S1, 13 VA1P25_AFE, 14 VA33_AFE, 15 XI, 16 XO, 17 EEPROM_SEL/GPIO12, 18 GPIO13, 19 TEST_MOD_SEL/GPIO14, 20 GPIO6, 21 GPIO0, 22 SPS_LDO_SEL/GPIO1, 23 GPIO2, 24 GPIO3, 25 UART_IN, 26 UART_CTS, 27 UART_OUT, 28 VDD_IO, 29 SD_D1/GSPI_INT, 30 SD_D0/GSPI_DO, 31 SD_CLK/GSPI_CLK, 32 SD_CMD/GSPI_DI, 33 SD_D3/GSPI_CS#, 34 SD_D2, 35 SW_GND, 36 SW_LX, 37 VD33D, 38 VD33D, 39 GND, 40 VD1P25, 41 VD33D, 42 GPIO7/BT_LED, 43 GPIO7/BT_LED, 44 GPIO8/WL_LED, 45 GPIO5, 46 GPIO4, 47 GPIO15, 48 RFIO_BTG_S0

## ST0103A2W
designator K?
footprint DPAK70P1823X500-20N (D3-PAK, 20-Pads, Body 16.41x17.53mm (max), IPC Medium Density)
pins: 1 GND (power), 2 GND (power), 3 WRX (in), 4 SDA (in), 5 SDO (in), 6 DCX (in), 7 CSX (in), 8 RESX (in), 9 lOVCC (power), 10 lOVCC (power), 11 VCC (power), 12 VCC (power), 13 GND (power), 14 GND (power), 15 N/C, 16 N/C, 17 LEDK1 (in), 18 LEDK2 (in), 19 LEDA (in), 20 LEDB (in)
text: ST0103A2W-WSNLW-F

## T POINT R
designator TP?, comment TP_35MIL  (value not drawn)
TEST POINT PAD .035 SMT, no part to order; ASSY_OPT: DNP; CLASS: IC; PCB Footprint: testpoint_35mil; AGILE_PN: 510-75618; CAD_APPROVED: Yes; ROHS: Yes; HEIGHT: 0.1MM
footprint Test Pin
pins: 1 TP

## Test Pin1
designator RX?  (value not drawn)
footprint Test Pin
pins: 1

## TESTLOOP
designator TP?, comment tpad_020  (value not drawn)  (graphical)
TEST POINT PAD 0.5MM DIA SMT, NO PART TO ORDER; ASSY_OPT: DNP; CLASS: IO; CAD_APPROVED: Yes; AGILE_PN: 211-77484; HEIGHT: 0.1MM; ROHS: Yes; PCB Footprint: tpad_020
footprint Test Pin
pins: 1 Pin1

## TESTLOOP_1
designator CMDm?, comment TPAD_015  (value not drawn)  (graphical)
TEST POINT PAD 15MIL DIA SMT, NO PART TO ORDER; ASSY_OPT: DNP; CLASS: IO; CAD_APPROVED: Yes; MFG_PN01: NOTACOMPONENT; AGILE_PN: 211-76645; PCB Footprint: TPAD_015; HEIGHT: 0.1MM; ROHS: Yes; MFG_NAME01: NOTACOMPONENT
footprint Test Pin
pins: 1 Pin1

## TESTLOOP_2
designator TP?, comment TPAD_050  (value not drawn)  (graphical)
TEST POINT PAD 50MIL DIA SMT, NO PART TO ORDER; ASSY_OPT: DNP; CLASS: IO; CAD_APPROVED: Yes; MFG_PN01: NOTACOMPONENT; AGILE_PN: 211-76644; PCB Footprint: TPAD_050; HEIGHT: 0.1MM; ROHS: Yes; MFG_NAME01: NOTACOMPONENT
footprint Test Pin
pins: 1 Pin1

## TitleBlock_MCPG
designator *?  Page Count: 1  (hidden comment: TitleBlock_MCPG)  (graphical)
Page Create Date: March  8, 1995; Page Number: 1; RevCode: ?; Page Modify Date: =Date
text: Nova34 - General Purpose Ultra Small Linux Board; nova34board.com; Designer:; Drawing Title:; InnovativeBoards; Drawn by:; Page Title:; Approved:; Size; Document Number; Rev; Date:; Sheet; of

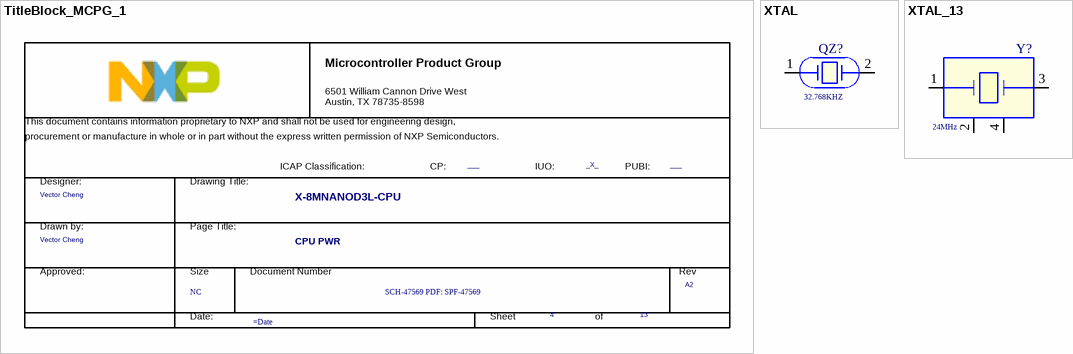
[diagram p6: symbols TitleBlock_MCPG_1 to XTAL_13]

## TitleBlock_MCPG_1
designator *?, comment FCP: ___  FIUO: _X_  DrawnBy: Vector Cheng  PageTitle: CPU PWR  Page Count: 13  Page Number: 4  Page Size: NC  Title: X-8MNANOD3L-CPU  RevCode: A2  Doc: SCH-47569 PDF: SPF-47569  (hidden comment: TitleBlock_MCPG)  (graphical)
OrgAddr1: NO. 192 Liangjing Rd. Pudong New Area, ShangHai; OrgName: NXP Semiconductor; PUBI: ___; Designer: Vector Cheng; Page Create Date: March  8, 1995; Page Modify Date: =Date
text: Microcontroller Product Group; 6501 William Cannon Drive West / Austin, TX 78735-8598; This document contains information proprietary to NXP and shall not be used for engineering design,; procurement or manufacture in whole or in part without the express written permission of NXP Semiconductors.; ICAP Classification:; CP:; IUO:; PUBI:; Designer:; Drawing Title:; Drawn by:; Page Title:; Approved:; Size; Document Number; Rev; Date:; Sheet; of

## XTAL
designator QZ?, comment 32.768KHZ
XTAL 32.768KHZ 12.5PF 20PPM 3.2X1.5MM SMT; CLASS: IC; CAD_APPROVED: Yes; MFG_PN01: ABS07-32.768KHZ-T; MFG_NAME01: Abracon Corporation; AGILE_PN: 230-77653; PCB Footprint: XTAL2-3P2X1P5-SM; HEIGHT: 0.9MM; ROHS: Yes
footprint XTAL_ABS07-32.768KHZ-T - duplicate (XTAL_ABS07-32.768KHZ-T\By AAR)
footprint XTAL_ABS07-32.768KHZ-T - duplicate (XTAL_ABS07-32.768KHZ-T\By AAR)
pins: 1, 2

## XTAL_13
designator Y?, comment 24MHz
XTAL 24MHZ 9pF -- SMT 3.2X2.5MM; CLASS: IC; AGILE_PN: 230-77392; MFG_NAME01: EPSON TOYOCOM CORPORATION; MFG_PN01: TSX-3225 24.0000MF15X-AC3; CAD_APPROVED: Yes; PCB Footprint: xtlosc4_3p2x2p5mm_sm; ROHS: Yes; HEIGHT: 0.60MM
footprint xtlosc4_3p2x2p5mm_sm
footprint OSCCC320X250X60
pins: 1, 2, 3, 4